# Altium integrated library 自定义库.IntLib: 520 symbols (part 4 of 6)
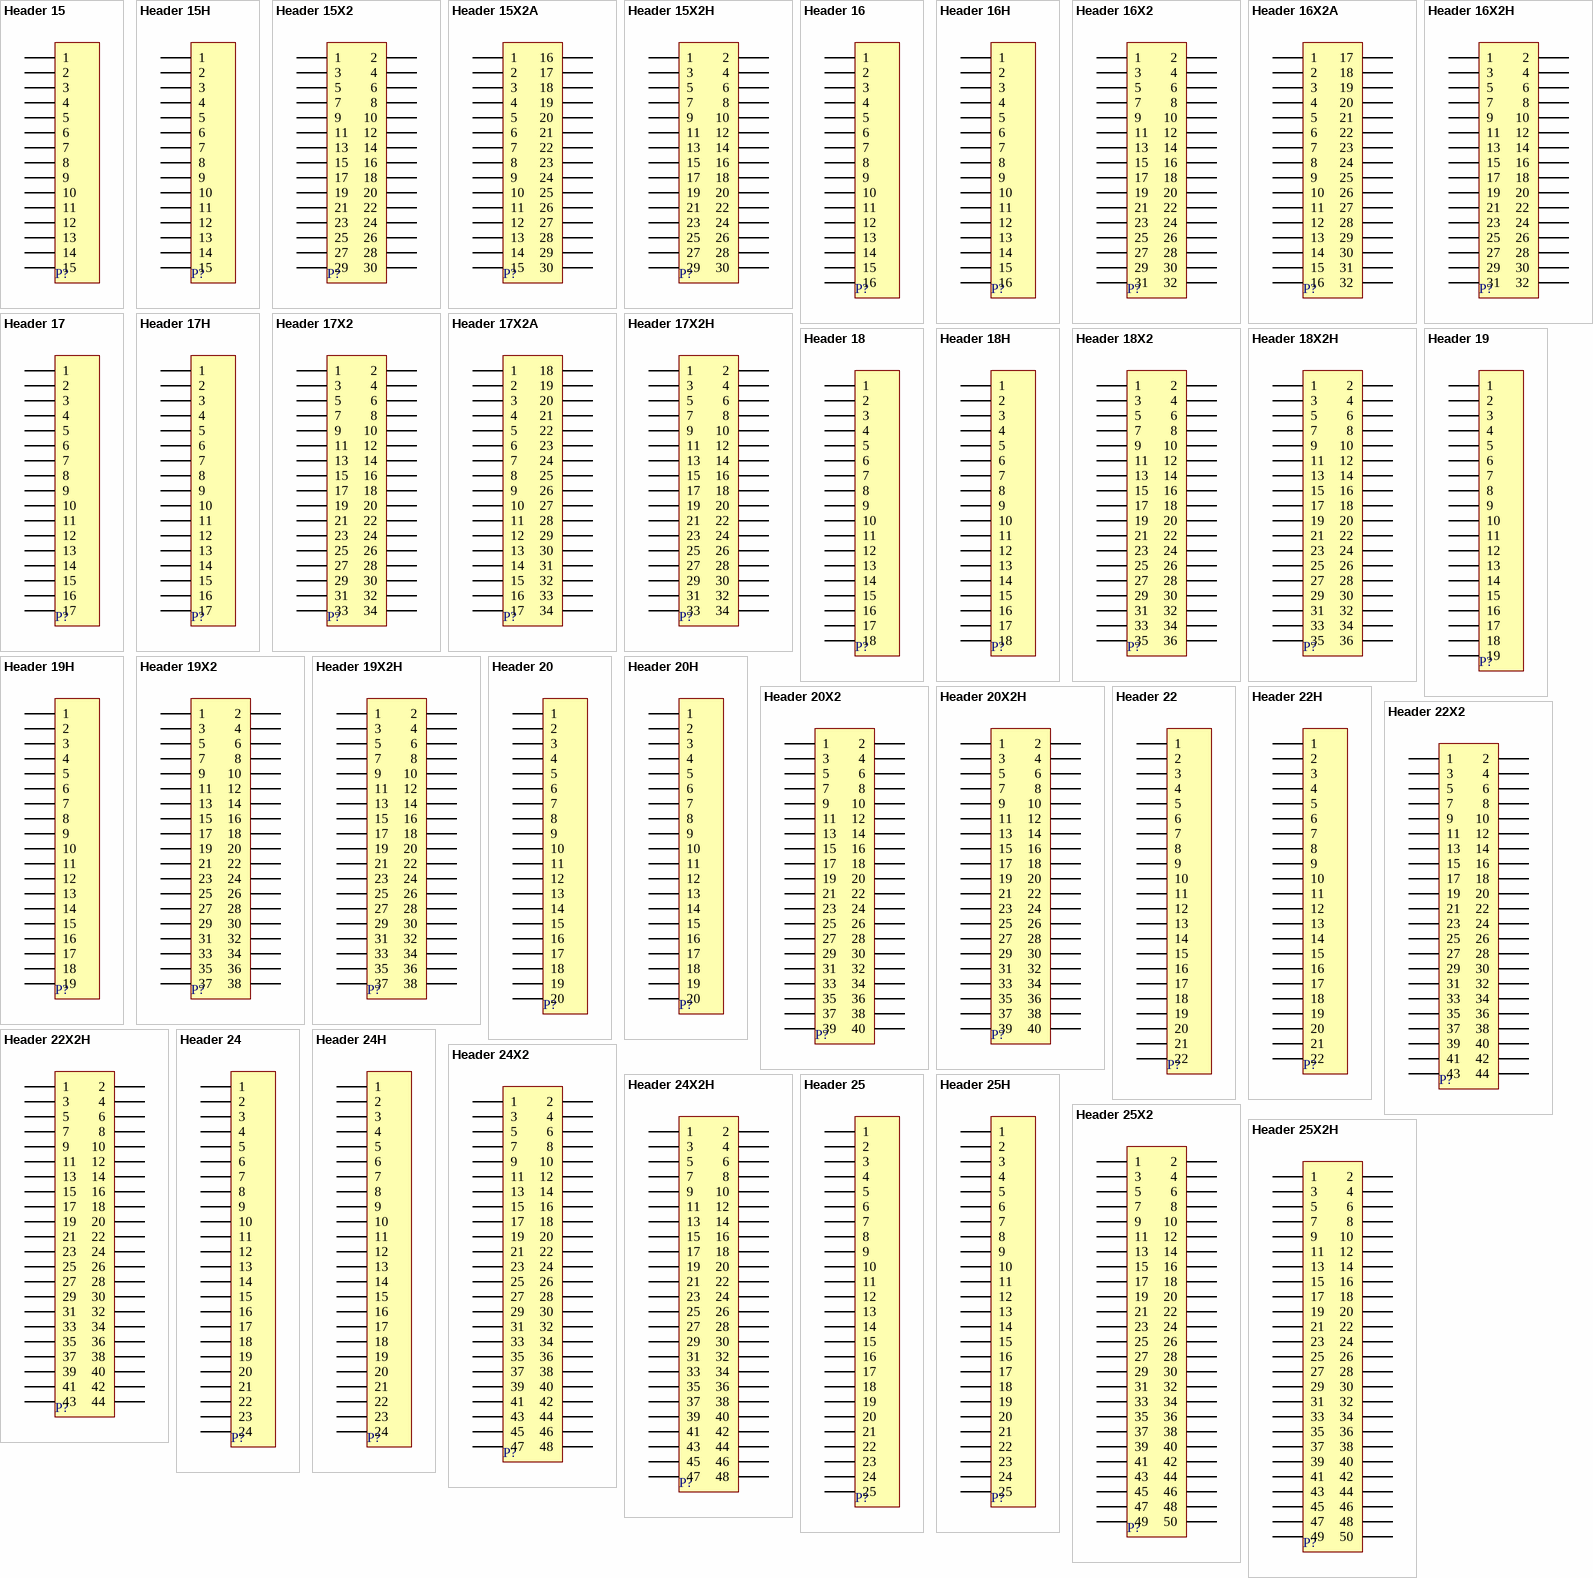
[diagram p43: symbols Header 15 to Header 25X2H]

## Header 25X2
designator P?
Header, 25-Pin, Dual row; LatestRevisionDate: 17-Jul-2002; LatestRevisionNote: Re-released for DXP Platform.; Publisher: Altium Limited
footprint HDR2X25 (Connector; Header; 25x2 Position)
signal-integrity model Connector
pins: 1, 2, 3, 4, 5, 6, 7, 8, 9, 10, 11, 12, 13, 14, 15, 16, 17, 18, 19, 20, 21, 22, 23, 24, 25, 26, 27, 28, 29, 30, 31, 32, 33, 34, 35, 36, 37, 38, 39, 40, 41, 42, 43, 44, 45, 46, 47, 48, 49, 50

## Header 25X2H
designator P?
Header, 25-Pin, Dual row, Right Angle; LatestRevisionDate: 17-Jul-2002; LatestRevisionNote: Re-released for DXP Platform.; Publisher: Altium Limited
footprint HDR2X25H (Connector; Header; 25x2 Position; Right Angle)
signal-integrity model Connector
pins: 1, 2, 3, 4, 5, 6, 7, 8, 9, 10, 11, 12, 13, 14, 15, 16, 17, 18, 19, 20, 21, 22, 23, 24, 25, 26, 27, 28, 29, 30, 31, 32, 33, 34, 35, 36, 37, 38, 39, 40, 41, 42, 43, 44, 45, 46, 47, 48, 49, 50

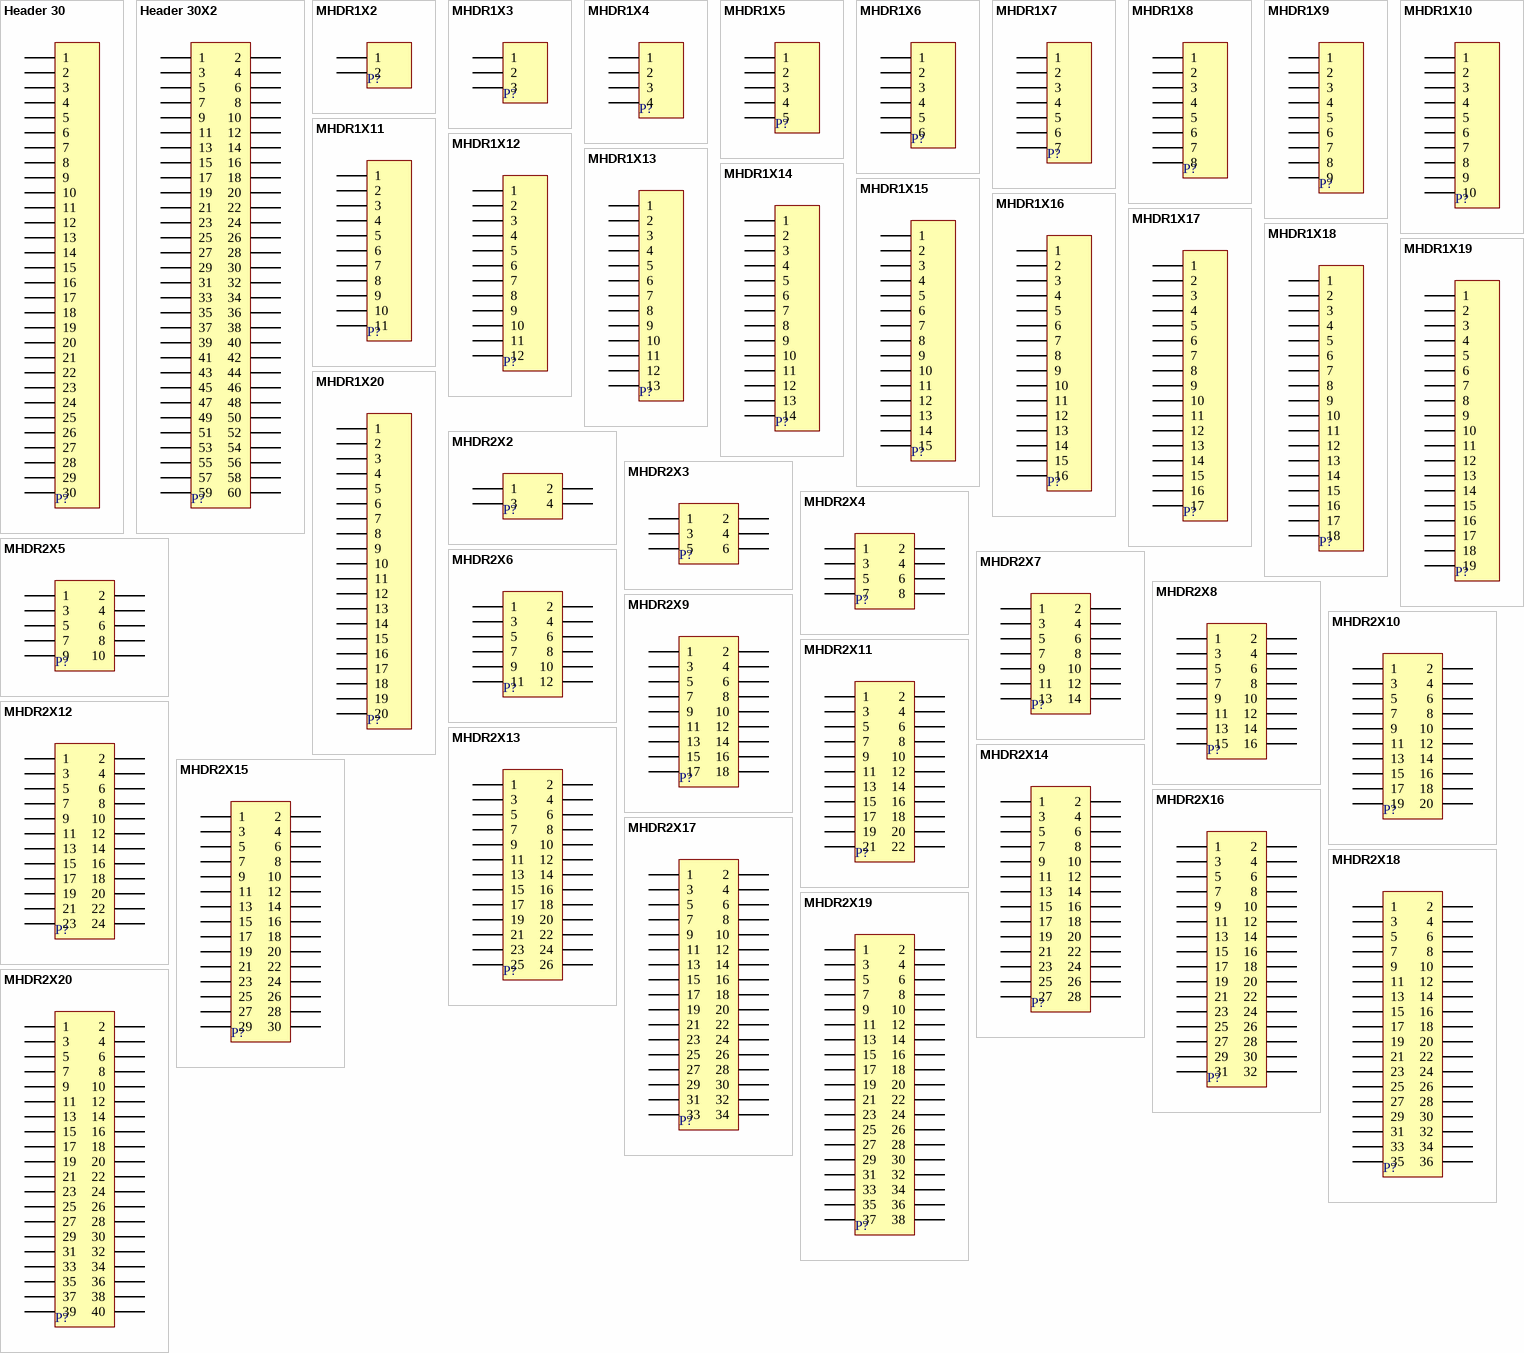
[diagram p12: symbols Header 30 to MHDR2X20]

## Header 30
designator P?
Header, 30-Pin; LatestRevisionDate: 17-Jul-2002; LatestRevisionNote: Re-released for DXP Platform.; Publisher: Altium Limited
footprint HDR1X30 (Connector; Header; 30 Position)
signal-integrity model Connector
pins: 1, 2, 3, 4, 5, 6, 7, 8, 9, 10, 11, 12, 13, 14, 15, 16, 17, 18, 19, 20, 21, 22, 23, 24, 25, 26, 27, 28, 29, 30

## Header 30X2
designator P?
Header, 30-Pin, Dual row; LatestRevisionDate: 17-Jul-2002; LatestRevisionNote: Re-released for DXP Platform.; Publisher: Altium Limited
footprint HDR2X30 (Connector; Header; 30x2 Position)
signal-integrity model Connector
pins: 1, 2, 3, 4, 5, 6, 7, 8, 9, 10, 11, 12, 13, 14, 15, 16, 17, 18, 19, 20, 21, 22, 23, 24, 25, 26, 27, 28, 29, 30, 31, 32, 33, 34, 35, 36, 37, 38, 39, 40, 41, 42, 43, 44, 45, 46, 47, 48, 49, 50, 51, 52, 53, 54, 55, 56, 57, 58, 59, 60

## MHDR1X2
designator P?
Header, 2-Pin; LatestRevisionDate: 17-Jul-2002; LatestRevisionNote: Re-released for DXP Platform.; Publisher: Altium Limited
footprint MHDR1X2 (Connector; Header; 2 Position)
signal-integrity model Connector
pins: 1, 2

## MHDR1X3
designator P?
Header, 3-Pin; LatestRevisionDate: 17-Jul-2002; LatestRevisionNote: Re-released for DXP Platform.; Publisher: Altium Limited
footprint MHDR1X3 (Connector; Header; 3 Position)
signal-integrity model Connector
pins: 1, 2, 3

## MHDR1X4
designator P?
Header, 4-Pin; LatestRevisionDate: 17-Jul-2002; LatestRevisionNote: Re-released for DXP Platform.; Publisher: Altium Limited
footprint MHDR1X4 (Connector; Header; 4 Position)
signal-integrity model Connector
pins: 1, 2, 3, 4

## MHDR1X5
designator P?
Header, 5-Pin; LatestRevisionDate: 17-Jul-2002; LatestRevisionNote: Re-released for DXP Platform.; Publisher: Altium Limited
footprint MHDR1X5 (Connector; Header; 5 Position)
signal-integrity model Connector
pins: 1, 2, 3, 4, 5

## MHDR1X6
designator P?
Header, 6-Pin; LatestRevisionDate: 17-Jul-2002; LatestRevisionNote: Re-released for DXP Platform.; Publisher: Altium Limited
footprint MHDR1X6 (Connector; Header; 6 Position)
signal-integrity model Connector
pins: 1, 2, 3, 4, 5, 6

## MHDR1X7
designator P?
Header, 7-Pin; LatestRevisionDate: 17-Jul-2002; LatestRevisionNote: Re-released for DXP Platform.; Publisher: Altium Limited
footprint MHDR1X7 (Connector; Header; 7 Position)
signal-integrity model Connector
pins: 1, 2, 3, 4, 5, 6, 7

## MHDR1X8
designator P?
Header, 8-Pin; LatestRevisionDate: 17-Jul-2002; LatestRevisionNote: Re-released for DXP Platform.; Publisher: Altium Limited
footprint MHDR1X8 (Connector; Header; 8 Position)
signal-integrity model Connector
pins: 1, 2, 3, 4, 5, 6, 7, 8

## MHDR1X9
designator P?
Header, 9-Pin; LatestRevisionDate: 17-Jul-2002; LatestRevisionNote: Re-released for DXP Platform.; Publisher: Altium Limited
footprint MHDR1X9 (Connector; Header; 9 Position)
signal-integrity model Connector
pins: 1, 2, 3, 4, 5, 6, 7, 8, 9

## MHDR1X10
designator P?
Header, 10-Pin; LatestRevisionDate: 17-Jul-2002; LatestRevisionNote: Re-released for DXP Platform.; Publisher: Altium Limited
footprint MHDR1X10 (Connector; Header; 10 Position)
signal-integrity model Connector
pins: 1, 2, 3, 4, 5, 6, 7, 8, 9, 10

## MHDR1X11
designator P?
Header, 11-Pin; LatestRevisionDate: 17-Jul-2002; LatestRevisionNote: Re-released for DXP Platform.; Publisher: Altium Limited
footprint MHDR1X11 (Connector; Header; 11 Position)
signal-integrity model Connector
pins: 1, 2, 3, 4, 5, 6, 7, 8, 9, 10, 11

## MHDR1X12
designator P?
Header, 12-Pin; LatestRevisionDate: 17-Jul-2002; LatestRevisionNote: Re-released for DXP Platform.; Publisher: Altium Limited
footprint MHDR1X12 (Connector; Header; 12 Position)
signal-integrity model Connector
pins: 1, 2, 3, 4, 5, 6, 7, 8, 9, 10, 11, 12

## MHDR1X13
designator P?
Header, 13-Pin; LatestRevisionDate: 17-Jul-2002; LatestRevisionNote: Re-released for DXP Platform.; Publisher: Altium Limited
footprint MHDR1X13 (Connector; Header; 13 Position)
signal-integrity model Connector
pins: 1, 2, 3, 4, 5, 6, 7, 8, 9, 10, 11, 12, 13

## MHDR1X14
designator P?
Header, 14-Pin; LatestRevisionDate: 17-Jul-2002; LatestRevisionNote: Re-released for DXP Platform.; Publisher: Altium Limited
footprint MHDR1X14 (Connector; Header; 14 Position)
signal-integrity model Connector
pins: 1, 2, 3, 4, 5, 6, 7, 8, 9, 10, 11, 12, 13, 14

## MHDR1X15
designator P?
Header, 15-Pin; LatestRevisionDate: 17-Jul-2002; LatestRevisionNote: Re-released for DXP Platform.; Publisher: Altium Limited
footprint MHDR1X15 (Connector; Header; 15 Position)
signal-integrity model Connector
pins: 1, 2, 3, 4, 5, 6, 7, 8, 9, 10, 11, 12, 13, 14, 15

## MHDR1X16
designator P?
Header, 16-Pin; LatestRevisionDate: 17-Jul-2002; LatestRevisionNote: Re-released for DXP Platform.; Publisher: Altium Limited
footprint MHDR1X16 (Connector; Header; 16 Position)
signal-integrity model Connector
pins: 1, 2, 3, 4, 5, 6, 7, 8, 9, 10, 11, 12, 13, 14, 15, 16

## MHDR1X17
designator P?
Header, 17-Pin; LatestRevisionDate: 17-Jul-2002; LatestRevisionNote: Re-released for DXP Platform.; Publisher: Altium Limited
footprint MHDR1X17 (Connector; Header; 17 Position)
signal-integrity model Connector
pins: 1, 2, 3, 4, 5, 6, 7, 8, 9, 10, 11, 12, 13, 14, 15, 16, 17

## MHDR1X18
designator P?
Header, 18-Pin; LatestRevisionDate: 17-Jul-2002; LatestRevisionNote: Re-released for DXP Platform.; Publisher: Altium Limited
footprint MHDR1X18 (Connector; Header; 18 Position)
signal-integrity model Connector
pins: 1, 2, 3, 4, 5, 6, 7, 8, 9, 10, 11, 12, 13, 14, 15, 16, 17, 18

## MHDR1X19
designator P?
Header, 19-Pin; LatestRevisionDate: 17-Jul-2002; LatestRevisionNote: Re-released for DXP Platform.; Publisher: Altium Limited
footprint MHDR1X19 (Connector; Header; 19 Position)
signal-integrity model Connector
pins: 1, 2, 3, 4, 5, 6, 7, 8, 9, 10, 11, 12, 13, 14, 15, 16, 17, 18, 19

## MHDR1X20
designator P?
Header, 20-Pin; LatestRevisionDate: 17-Jul-2002; LatestRevisionNote: Re-released for DXP Platform.; Publisher: Altium Limited
footprint MHDR1X20 (Connector; Header; 20 Position)
signal-integrity model Connector
pins: 1, 2, 3, 4, 5, 6, 7, 8, 9, 10, 11, 12, 13, 14, 15, 16, 17, 18, 19, 20

## MHDR2X2
designator P?
Header, 2-Pin, Dual row; LatestRevisionDate: 17-Jul-2002; LatestRevisionNote: Re-released for DXP Platform.; Publisher: Altium Limited
footprint MHDR2X2 (Connector; Header; 2x2 Position)
signal-integrity model Connector
pins: 1, 2, 3, 4

## MHDR2X3
designator P?
Header, 3-Pin, Dual row; LatestRevisionDate: 17-Jul-2002; LatestRevisionNote: Re-released for DXP Platform.; Publisher: Altium Limited
footprint MHDR2X3 (Connector; Header; 3x2 Position)
signal-integrity model Connector
pins: 1, 2, 3, 4, 5, 6

## MHDR2X4
designator P?
Header, 4-Pin, Dual row; LatestRevisionDate: 17-Jul-2002; LatestRevisionNote: Re-released for DXP Platform.; Publisher: Altium Limited
footprint MHDR2X4 (Connector; Header; 4x2 Position)
signal-integrity model Connector
pins: 1, 2, 3, 4, 5, 6, 7, 8

## MHDR2X5
designator P?
Header, 5-Pin, Dual row; LatestRevisionDate: 17-Jul-2002; LatestRevisionNote: Re-released for DXP Platform.; Publisher: Altium Limited
footprint MHDR2X5 (Connector; Header; 5x2 Position)
signal-integrity model Connector
pins: 1, 2, 3, 4, 5, 6, 7, 8, 9, 10

## MHDR2X6
designator P?
Header, 6-Pin, Dual row; LatestRevisionDate: 17-Jul-2002; LatestRevisionNote: Re-released for DXP Platform.; Publisher: Altium Limited
footprint MHDR2X6 (Connector; Header; 6x2 Position)
signal-integrity model Connector
pins: 1, 2, 3, 4, 5, 6, 7, 8, 9, 10, 11, 12

## MHDR2X7
designator P?
Header, 7-Pin, Dual row; LatestRevisionDate: 17-Jul-2002; LatestRevisionNote: Re-released for DXP Platform.; Publisher: Altium Limited
footprint MHDR2X7 (Connector; Header; 7x2 Position)
signal-integrity model Connector
pins: 1, 2, 3, 4, 5, 6, 7, 8, 9, 10, 11, 12, 13, 14

## MHDR2X8
designator P?
Header, 8-Pin, Dual row; LatestRevisionDate: 17-Jul-2002; LatestRevisionNote: Re-released for DXP Platform.; Publisher: Altium Limited
footprint MHDR2X8 (Connector; Header; 8x2 Position)
signal-integrity model Connector
pins: 1, 2, 3, 4, 5, 6, 7, 8, 9, 10, 11, 12, 13, 14, 15, 16

## MHDR2X9
designator P?
Header, 9-Pin, Dual row; LatestRevisionDate: 17-Jul-2002; LatestRevisionNote: Re-released for DXP Platform.; Publisher: Altium Limited
footprint MHDR2X9 (Connector; Header; 9x2 Position)
signal-integrity model Connector
pins: 1, 2, 3, 4, 5, 6, 7, 8, 9, 10, 11, 12, 13, 14, 15, 16, 17, 18

## MHDR2X10
designator P?
Header, 10-Pin, Dual row; LatestRevisionDate: 17-Jul-2002; LatestRevisionNote: Re-released for DXP Platform.; Publisher: Altium Limited
footprint MHDR2X10 (Connector; Header; 10x2 Position)
signal-integrity model Connector
pins: 1, 2, 3, 4, 5, 6, 7, 8, 9, 10, 11, 12, 13, 14, 15, 16, 17, 18, 19, 20

## MHDR2X11
designator P?
Header, 11-Pin, Dual row; LatestRevisionDate: 17-Jul-2002; LatestRevisionNote: Re-released for DXP Platform.; Publisher: Altium Limited
footprint MHDR2X11 (Connector; Header; 11x2 Position)
signal-integrity model Connector
pins: 1, 2, 3, 4, 5, 6, 7, 8, 9, 10, 11, 12, 13, 14, 15, 16, 17, 18, 19, 20, 21, 22

## MHDR2X12
designator P?
Header, 12-Pin, Dual row; LatestRevisionDate: 17-Jul-2002; LatestRevisionNote: Re-released for DXP Platform.; Publisher: Altium Limited
footprint MHDR2X12 (Connector; Header; 12x2 Position)
signal-integrity model Connector
pins: 1, 2, 3, 4, 5, 6, 7, 8, 9, 10, 11, 12, 13, 14, 15, 16, 17, 18, 19, 20, 21, 22, 23, 24

## MHDR2X13
designator P?
Header, 13-Pin, Dual row; LatestRevisionDate: 17-Jul-2002; LatestRevisionNote: Re-released for DXP Platform.; Publisher: Altium Limited
footprint MHDR2X13 (Connector; Header; 13x2 Position)
signal-integrity model Connector
pins: 1, 2, 3, 4, 5, 6, 7, 8, 9, 10, 11, 12, 13, 14, 15, 16, 17, 18, 19, 20, 21, 22, 23, 24, 25, 26

## MHDR2X14
designator P?
Header, 14-Pin, Dual row; LatestRevisionDate: 17-Jul-2002; LatestRevisionNote: Re-released for DXP Platform.; Publisher: Altium Limited
footprint MHDR2X14 (Connector; Header; 14x2 Position)
signal-integrity model Connector
pins: 1, 2, 3, 4, 5, 6, 7, 8, 9, 10, 11, 12, 13, 14, 15, 16, 17, 18, 19, 20, 21, 22, 23, 24, 25, 26, 27, 28

## MHDR2X15
designator P?
Header, 15-Pin, Dual row; LatestRevisionDate: 17-Jul-2002; LatestRevisionNote: Re-released for DXP Platform.; Publisher: Altium Limited
footprint MHDR2X15 (Connector; Header; 15x2 Position)
signal-integrity model Connector
pins: 1, 2, 3, 4, 5, 6, 7, 8, 9, 10, 11, 12, 13, 14, 15, 16, 17, 18, 19, 20, 21, 22, 23, 24, 25, 26, 27, 28, 29, 30

## MHDR2X16
designator P?
Header, 16-Pin, Dual row; LatestRevisionDate: 17-Jul-2002; LatestRevisionNote: Re-released for DXP Platform.; Publisher: Altium Limited
footprint MHDR2X16 (Connector; Header; 16x2 Position)
signal-integrity model Connector
pins: 1, 2, 3, 4, 5, 6, 7, 8, 9, 10, 11, 12, 13, 14, 15, 16, 17, 18, 19, 20, 21, 22, 23, 24, 25, 26, 27, 28, 29, 30, 31, 32

## MHDR2X17
designator P?
Header, 17-Pin, Dual row; LatestRevisionDate: 17-Jul-2002; LatestRevisionNote: Re-released for DXP Platform.; Publisher: Altium Limited
footprint MHDR2X17 (Connector; Header; 17x2 Position)
signal-integrity model Connector
pins: 1, 2, 3, 4, 5, 6, 7, 8, 9, 10, 11, 12, 13, 14, 15, 16, 17, 18, 19, 20, 21, 22, 23, 24, 25, 26, 27, 28, 29, 30, 31, 32, 33, 34

## MHDR2X18
designator P?
Header, 18-Pin, Dual row; LatestRevisionDate: 17-Jul-2002; LatestRevisionNote: Re-released for DXP Platform.; Publisher: Altium Limited
footprint MHDR2X18 (Connector; Header; 18x2 Position)
signal-integrity model Connector
pins: 1, 2, 3, 4, 5, 6, 7, 8, 9, 10, 11, 12, 13, 14, 15, 16, 17, 18, 19, 20, 21, 22, 23, 24, 25, 26, 27, 28, 29, 30, 31, 32, 33, 34, 35, 36

## MHDR2X19
designator P?
Header, 19-Pin, Dual row; LatestRevisionDate: 17-Jul-2002; LatestRevisionNote: Re-released for DXP Platform.; Publisher: Altium Limited
footprint MHDR2X19 (Connector; Header; 19x2 Position)
signal-integrity model Connector
pins: 1, 2, 3, 4, 5, 6, 7, 8, 9, 10, 11, 12, 13, 14, 15, 16, 17, 18, 19, 20, 21, 22, 23, 24, 25, 26, 27, 28, 29, 30, 31, 32, 33, 34, 35, 36, 37, 38

## MHDR2X20
designator P?
Header, 20-Pin, Dual row; LatestRevisionDate: 17-Jul-2002; LatestRevisionNote: Re-released for DXP Platform.; Publisher: Altium Limited
footprint MHDR2X20 (Connector; Header; 20x2 Position)
signal-integrity model Connector
pins: 1, 2, 3, 4, 5, 6, 7, 8, 9, 10, 11, 12, 13, 14, 15, 16, 17, 18, 19, 20, 21, 22, 23, 24, 25, 26, 27, 28, 29, 30, 31, 32, 33, 34, 35, 36, 37, 38, 39, 40

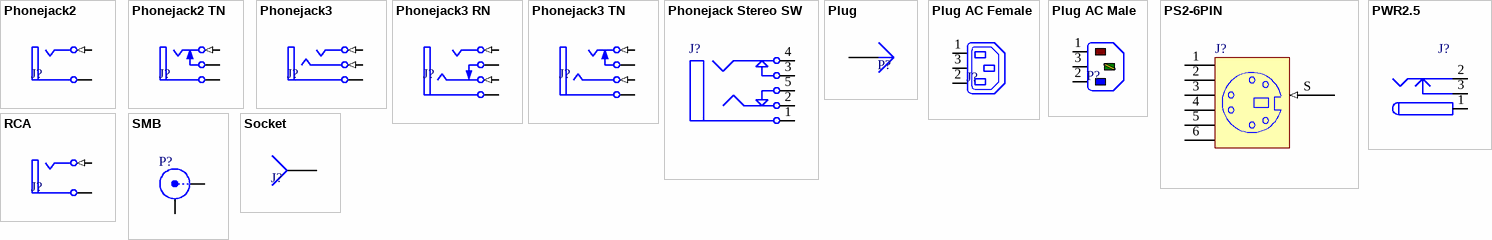
[diagram p13: symbols Phonejack2 to Socket]

## Phonejack2
designator J?
Jack Socket, 1/4" [6.5mm], Thru-Hole, Vertical, 2-Conductor Open Circuit; PackageDocument: 2003; PCB_Layout: Complies with manufacturer's recommendation.; DrillAndSlotSize: Corresponds to nominal value.; LatestRevisionDate: 15-Jul-2004; LatestRevisionNote: Component Replaced.; DatasheetDocument: 2003; PackageReference: S1VS_SNS; Publisher: Altium Limited; ComponentLink1Description: Manufacturer Link; ComponentLink1URL: http://www.cliffuk.co.uk/
footprint JACK/6-V2 (Connector; Jack Socket, 1/4" [6.5mm], Thru-Hole, 2 Position, Vertical, Body 15.7 x 15.7 x 31 mm (WxTxH))
signal-integrity model JACK Socket
pins: 1 T (in) "Tip", 5 S (power) "Sleeve (Ground)"

## Phonejack2 TN
designator J?
Jack Socket, 1/4" [6.5mm], Thru-Hole, Vertical, 2-Conductor with Tip closed; PackageDocument: 2003; PCB_Layout: Complies with manufacturer's recommendation.; DrillAndSlotSize: Corresponds to nominal value.; LatestRevisionDate: 15-Jul-2004; LatestRevisionNote: Component Replaced & renamed from "Phonejack".; DatasheetDocument: 2003; PackageReference: S1VS_SNB; Publisher: Altium Limited; ComponentLink1Description: Manufacturer Link; ComponentLink1URL: http://www.cliffuk.co.uk/
footprint JACK/6-V3A (Connector; Jack Socket, 1/4" [6.5mm], Thru-Hole, 3 Position, Vertical, Body 15.7 x 15.7 x 31 mm (WxTxH))
signal-integrity model JACK Socket
pins: 1 T (in) "Tip", 2 TN "Tip Normal (Break Contact)", 5 S (power) "Sleeve (Ground)"

## Phonejack3
designator J?
Jack Socket, 1/4" [6.5mm], Thru-Hole, Vertical, 3-Conductor Open Circuit (Non-Normalling); PackageDocument: 2003; PCB_Layout: Complies with manufacturer's recommendation.; DrillAndSlotSize: Corresponds to nominal value.; Published: 15-Jul-2004; LatestRevisionDate: 15-Jul-2004; LatestRevisionNote: Component Replaced.; DatasheetDocument: 2003; PackageReference: S1VS_SSS; Publisher: Altium Limited; ComponentLink1Description: Manufacturer Link; ComponentLink1URL: http://www.cliffuk.co.uk/
footprint JACK/6-V3 (Connector; Jack Socket, 1/4" [6.5mm], Thru-Hole, 3 Position, Vertical, Body 15.7 x 15.7 x 31 mm (WxTxH))
signal-integrity model JACK Socket
pins: 1 T (in) "Tip/Left Channel/(+)", 3 R (in) "Ring/Right Channel/(-)", 5 S (power) "Sleeve (Ground)"

## Phonejack3 RN
designator J?
Jack Socket, 1/4" [6.5mm], Thru-Hole, Vertical, 3-Conductor with Tip open & Ring closed; PackageDocument: 2003; PCB_Layout: Complies with manufacturer's recommendation.; DrillAndSlotSize: Corresponds to nominal value.; Published: 15-Jul-2004; DatasheetDocument: 2003; PackageReference: S1VS_SBS; Publisher: Altium Limited; ComponentLink1Description: Manufacturer Link; ComponentLink1URL: http://www.cliffuk.co.uk/
footprint JACK/6-V4A (Connector; Jack Socket, 1/4" [6.5mm], Thru-Hole, 4 Position, Vertical, Body 15.7 x 15.7 x 31 mm (WxTxH))
signal-integrity model JACK Socket
pins: 1 T (in) "Tip/Left Channel/(+)", 3 R (in) "Ring/Right Channel/(-)", 4 RN "Ring Normal (Break Contact)", 5 S (power) "Sleeve (Ground)"

## Phonejack3 TN
designator J?
Jack Socket, 1/4" [6.5mm], Thru-Hole, Vertical, 3-Conductor with Tip closed & Ring open; PackageDocument: 2003; PCB_Layout: Complies with manufacturer's recommendation.; DrillAndSlotSize: Corresponds to nominal value.; Published: 15-Jul-2004; DatasheetDocument: 2003; PackageReference: S1VS_SSB; Publisher: Altium Limited; ComponentLink1Description: Manufacturer Link; ComponentLink1URL: http://www.cliffuk.co.uk/
footprint JACK/6-V4 (Connector; Jack Socket, 1/4" [6.5mm], Thru-Hole, 4 Position, Vertical, Body 15.7 x 15.7 x 31 mm (WxTxH))
signal-integrity model JACK Socket
pins: 1 T (in) "Tip/Left Channel/(+)", 2 TN "Tip Normal (Break Contact)", 3 R (in) "Ring/Right Channel/(-)", 5 S (power) "Sleeve (Ground)"

## Phonejack Stereo SW
designator J?
3-Conductor Jack with 2 break contacts (normals) and 2 auxiliary make contacts; Published: 5-Jan-2004; LatestRevisionDate: 17-Dec-2003; LatestRevisionNote: PCB Footprint replaced.; DatasheetDocument: 07-Mar-2000; Publisher: Altium Limited; ComponentLink1Description: Manufacturer Link; ComponentLink1URL: http://domino.kycon.com/internet/Products.html
footprint ST-3150-5N (Connector; Stereo Jack, 3.5mm, 5 Position)
signal-integrity model Connector
pins: 1, 1A, 1B, 2, 2A, 2B, 3, 3A, 3B, 4, 4A, 4B, 5, 5A, 5B

## Plug
designator P?
Plug; LatestRevisionDate: 17-Jul-2002; LatestRevisionNote: Re-released for DXP Platform.; Publisher: Altium Limited
footprint PIN1 (Connector; Plug)
signal-integrity model Connector
pins: 1

## Plug AC Female
designator J?
IEC Mains Power Outlet, EN60 320-2-2 F Class I, PC Flange Rear Mount, Chassis Socket; PackageDocument: ver.80, 15-Sep-2003; MaximumRating: 10A, 250V a.c. (UL & CSA 15A, 250V a.c.); MountingFixtures: Not drawn on schematic symbol.; PCB_Layout: Complies with manufacturer's recommendation.; DrillSize: Corresponds to nominal value.; Published: 15-Jul-2004; LatestRevisionDate: 15-Jul-2004; LatestRevisionNote: Component Replaced & renamed from "Phonejack".; DatasheetDocument: ver.80, 15-Sep-2003; PackageReference: PX0675/PC; Publisher: Altium Limited; Terminations: P.C. Spills; ComponentLink1Description: Manufacturer Link; ComponentLink1URL: http://www.bulgin.co.uk/
footprint IEC7-2H3 (Mains Power Outlet, IEC60 320-2-2 F, PC Flange Rear Mount)
pins: 1 L (power) "Live (Active)", 2 N (power) "Neutral", 3 E (power) "Earth (Ground)"

## Plug AC Male
designator P?
IEC Mains Power Inlet, EN60 320-1 C14 Class I Cold Condition, PC Flange Rear Mount, Chassis Plug; PackageDocument: ver.80, 15-Sep-2003; MaximumRating: 10A, 250V a.c. (UL & CSA 15A, 250V a.c.); MountingFixtures: Not drawn on schematic symbol.; PCB_Layout: Complies with manufacturer's recommendation.; DrillSize: Corresponds to nominal value.; Note: IEC Color Scheme employed for L, N and E.; Published: 15-Jul-2004; LatestRevisionDate: 15-Jul-2004; LatestRevisionNote: Component Replaced.; DatasheetDocument: ver.80, 15-Sep-2003; PackageReference: PX0580/PC; Publisher: Altium Limited; Terminations: P.C. Spills; ComponentLink1Description: Manufacturer Link; ComponentLink1URL: http://www.bulgin.co.uk/
footprint IEC9.14-2H3 (Mains Power Inlet, IEC60 320-1 C14, PC Flange Rear Mount)
pins: 1 L (power) "Live (Active)", 2 N (power) "Neutral", 3 E (power) "Earth (Ground)"

## PS2-6PIN
designator J?
6 Pin Through Hole PS2 Socket (Kycon P/N); Published: 17-Dec-2003; Publisher: Altium Limited; ComponentLink1Description: Manufacturer Link; ComponentLink1URL: http://www.oupiin.com/prodindx.html#Headers
footprint PS2-6PIN (PS2 Socket, 6 Pin, Through Hole)
signal-integrity model Connector
pins: 1, 2, 3, 4, 5, 6, S (in)

## PWR2.5
designator J?
Low Voltage Power Supply Connector; Published: 17-Dec-2003; DatasheetDocument: 09-May-2002; Publisher: Altium Limited; ComponentLink1Description: Manufacturer Link; ComponentLink1URL: http://domino.kycon.com/internet/Products.html
footprint KLD-0202 (DC Power Jack, 2.5mm, KLD Series, PCB Mount)
signal-integrity model Connector
pins: 1 (power), 1A (power), 1B (power), 2 (power), 2A (power), 2B (power), 3 (power), 3A (power), 3B (power)

## RCA
designator J?
RCA Phono Jack, Right Angle, Thru-Hole, Snap-In; PCB_Layout: Complies with manufacturer's recommendation.; DrillAndSlotSize: Corresponds to nominal value.; Published: 15-Jul-2004; LatestRevisionDate: 15-Jul-2004; LatestRevisionNote: Component Replaced.; DatasheetDocument: 7-Jul-2000; PackageDocument: 7-Jul-2000; PackageReference: 161; Publisher: Altium Limited; ComponentLink1Description: Manufacturer Link; ComponentLink1URL: http://www.mouser.com/kobiconn/
footprint RCA/4.5-H2 (Two Conductor Jack (RCA), Right Angle, Thru-Hole, Body 10 x 10 x 13 mm (WxTxH))
signal-integrity model RCA
pins: 1A Ground (power) "Outer Shield (Sleeve)", 2B Signal (in) "Center Pin (Plug Tip)"

## SMB
designator P?
SMB Straight Connector; LatestRevisionDate: 17-Jul-2002; LatestRevisionNote: Re-released for DXP Platform.; Publisher: Altium Limited
footprint SMB_V-RJ45 (Connector; SMB Straight)
signal-integrity model Connector
pins: 1 X, 2 Y

## Socket
designator J?
Socket; LatestRevisionDate: 17-Jul-2002; LatestRevisionNote: Re-released for DXP Platform.; Publisher: Altium Limited
footprint PIN1 (Connector; Socket)
signal-integrity model Connector
pins: 1


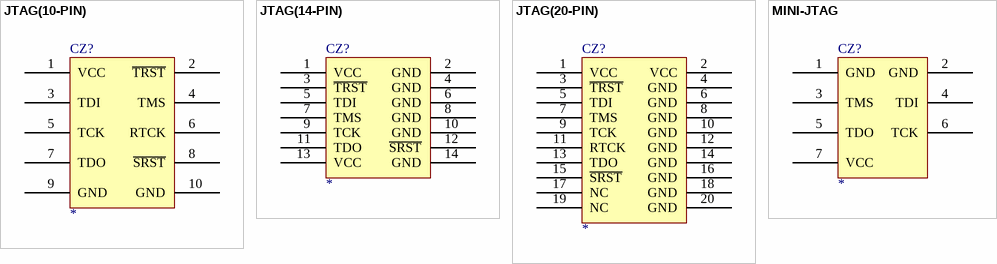
[diagram p14: symbols JTAG(10-PIN) to MINI-JTAG]

## JTAG(10-PIN)
designator CZ?
footprint IDC-10(2.54)IDE
pins: 1 VCC, 2 ~{TRST}, 3 TDI, 4 TMS, 5 TCK, 6 RTCK, 7 TDO, 8 ~{SRST}, 9 GND, 10 GND

## JTAG(14-PIN)
designator CZ?
footprint IDC-14(2.54)IDE
pins: 1 VCC, 2 GND, 3 ~{TRST}, 4 GND, 5 TDI, 6 GND, 7 TMS, 8 GND, 9 TCK, 10 GND, 11 TDO, 12 ~{SRST}, 13 VCC, 14 GND

## JTAG(20-PIN)
designator CZ?
footprint IDC-20(2.54)IDE
pins: 1 VCC, 2 VCC, 3 ~{TRST}, 4 GND, 5 TDI, 6 GND, 7 TMS, 8 GND, 9 TCK, 10 GND, 11 RTCK, 12 GND, 13 TDO, 14 GND, 15 ~{SRST}, 16 GND, 17 NC, 18 GND, 19 NC, 20 GND

## MINI-JTAG
designator CZ?
footprint IDC-7(2.54)
pins: 1 GND, 2 GND, 3 TMS, 4 TDI, 5 TDO, 6 TCK, 7 VCC


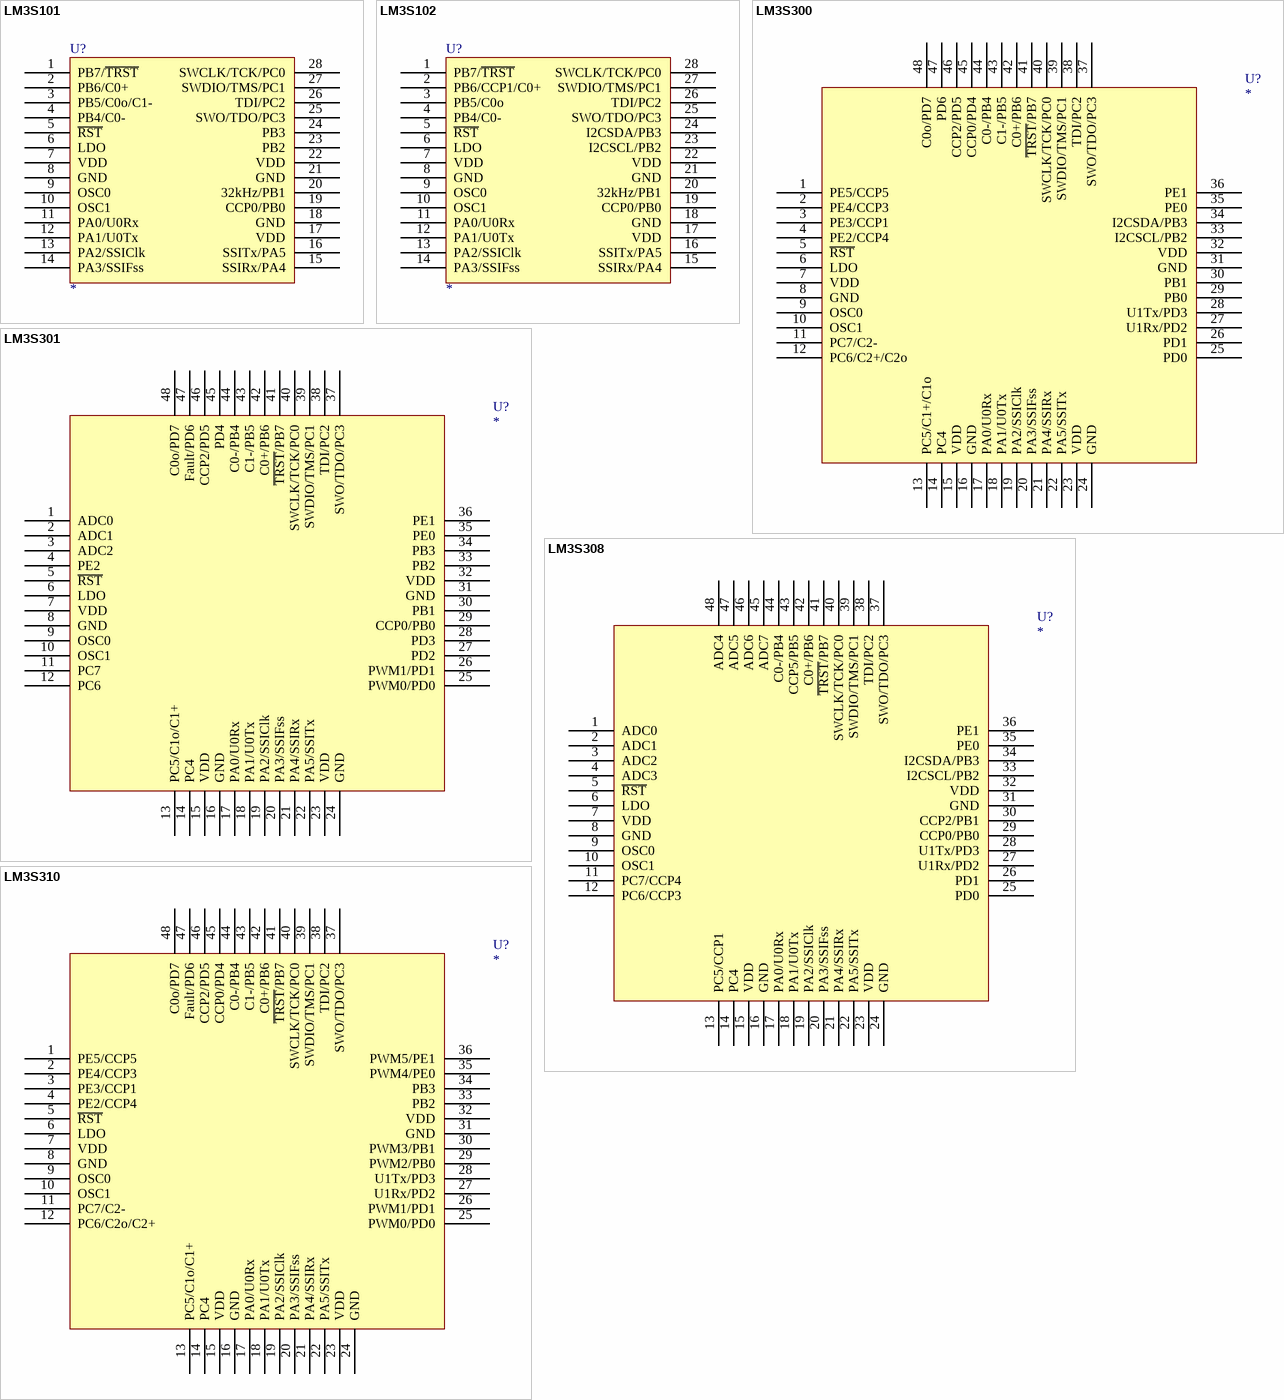
[diagram p15: symbols LM3S101 to LM3S310]

## LM3S101
designator U?
footprint SOIC-28
pins: 1 PB7/~{TRST}, 2 PB6/C0+, 3 PB5/C0o/C1-, 4 PB4/C0-, 5 ~{RST}, 6 LDO, 7 VDD, 8 GND, 9 OSC0, 10 OSC1, 11 PA0/U0Rx, 12 PA1/U0Tx, 13 PA2/SSIClk, 14 PA3/SSIFss, 15 SSIRx/PA4, 16 SSITx/PA5, 17 VDD, 18 GND, 19 CCP0/PB0, 20 32kHz/PB1, 21 GND, 22 VDD, 23 PB2, 24 PB3, 25 SWO/TDO/PC3, 26 TDI/PC2, 27 SWDIO/TMS/PC1, 28 SWCLK/TCK/PC0

## LM3S102
designator U?
footprint SOIC-28
pins: 1 PB7/~{TRST}, 2 PB6/CCP1/C0+, 3 PB5/C0o, 4 PB4/C0-, 5 ~{RST}, 6 LDO, 7 VDD, 8 GND, 9 OSC0, 10 OSC1, 11 PA0/U0Rx, 12 PA1/U0Tx, 13 PA2/SSIClk, 14 PA3/SSIFss, 15 SSIRx/PA4, 16 SSITx/PA5, 17 VDD, 18 GND, 19 CCP0/PB0, 20 32kHz/PB1, 21 GND, 22 VDD, 23 I2CSCL/PB2, 24 I2CSDA/PB3, 25 SWO/TDO/PC3, 26 TDI/PC2, 27 SWDIO/TMS/PC1, 28 SWCLK/TCK/PC0

## LM3S300
designator U?
footprint LQFP-48
pins: 1 PE5/CCP5, 2 PE4/CCP3, 3 PE3/CCP1, 4 PE2/CCP4, 5 ~{RST}, 6 LDO, 7 VDD, 8 GND, 9 OSC0, 10 OSC1, 11 PC7/C2-, 12 PC6/C2+/C2o, 13 PC5/C1+/C1o, 14 PC4, 15 VDD, 16 GND, 17 PA0/U0Rx, 18 PA1/U0Tx, 19 PA2/SSIClk, 20 PA3/SSIFss, 21 PA4/SSIRx, 22 PA5/SSITx, 23 VDD, 24 GND, 25 PD0, 26 PD1, 27 U1Rx/PD2, 28 U1Tx/PD3, 29 PB0, 30 PB1, 31 GND, 32 VDD, 33 I2CSCL/PB2, 34 I2CSDA/PB3, 35 PE0, 36 PE1, 37 SWO/TDO/PC3, 38 TDI/PC2, 39 SWDIO/TMS/PC1, 40 SWCLK/TCK/PC0, 41 ~{TRST}/PB7, 42 C0+/PB6, 43 C1-/PB5, 44 C0-/PB4, 45 CCP0/PD4, 46 CCP2/PD5, 47 PD6, 48 C0o/PD7

## LM3S301
designator U?
footprint LQFP-48
pins: 1 ADC0, 2 ADC1, 3 ADC2, 4 PE2, 5 ~{RST}, 6 LDO, 7 VDD, 8 GND, 9 OSC0, 10 OSC1, 11 PC7, 12 PC6, 13 PC5/C1o/C1+, 14 PC4, 15 VDD, 16 GND, 17 PA0/U0Rx, 18 PA1/U0Tx, 19 PA2/SSIClk, 20 PA3/SSIFss, 21 PA4/SSIRx, 22 PA5/SSITx, 23 VDD, 24 GND, 25 PWM0/PD0, 26 PWM1/PD1, 27 PD2, 28 PD3, 29 CCP0/PB0, 30 PB1, 31 GND, 32 VDD, 33 PB2, 34 PB3, 35 PE0, 36 PE1, 37 SWO/TDO/PC3, 38 TDI/PC2, 39 SWDIO/TMS/PC1, 40 SWCLK/TCK/PC0, 41 ~{TRST}/PB7, 42 C0+/PB6, 43 C1-/PB5, 44 C0-/PB4, 45 PD4, 46 CCP2/PD5, 47 Fault/PD6, 48 C0o/PD7

## LM3S308
designator U?
footprint LQFP-48
pins: 1 ADC0, 2 ADC1, 3 ADC2, 4 ADC3, 5 ~{RST}, 6 LDO, 7 VDD, 8 GND, 9 OSC0, 10 OSC1, 11 PC7/CCP4, 12 PC6/CCP3, 13 PC5/CCP1, 14 PC4, 15 VDD, 16 GND, 17 PA0/U0Rx, 18 PA1/U0Tx, 19 PA2/SSIClk, 20 PA3/SSIFss, 21 PA4/SSIRx, 22 PA5/SSITx, 23 VDD, 24 GND, 25 PD0, 26 PD1, 27 U1Rx/PD2, 28 U1Tx/PD3, 29 CCP0/PB0, 30 CCP2/PB1, 31 GND, 32 VDD, 33 I2CSCL/PB2, 34 I2CSDA/PB3, 35 PE0, 36 PE1, 37 SWO/TDO/PC3, 38 TDI/PC2, 39 SWDIO/TMS/PC1, 40 SWCLK/TCK/PC0, 41 ~{TRST}/PB7, 42 C0+/PB6, 43 CCP5/PB5, 44 C0-/PB4, 45 ADC7, 46 ADC6, 47 ADC5, 48 ADC4

## LM3S310
designator U?
footprint LQFP-48
pins: 1 PE5/CCP5, 2 PE4/CCP3, 3 PE3/CCP1, 4 PE2/CCP4, 5 ~{RST}, 6 LDO, 7 VDD, 8 GND, 9 OSC0, 10 OSC1, 11 PC7/C2-, 12 PC6/C2o/C2+, 13 PC5/C1o/C1+, 14 PC4, 15 VDD, 16 GND, 17 PA0/U0Rx, 18 PA1/U0Tx, 19 PA2/SSIClk, 20 PA3/SSIFss, 21 PA4/SSIRx, 22 PA5/SSITx, 23 VDD, 24 GND, 25 PWM0/PD0, 26 PWM1/PD1, 27 U1Rx/PD2, 28 U1Tx/PD3, 29 PWM2/PB0, 30 PWM3/PB1, 31 GND, 32 VDD, 33 PB2, 34 PB3, 35 PWM4/PE0, 36 PWM5/PE1, 37 SWO/TDO/PC3, 38 TDI/PC2, 39 SWDIO/TMS/PC1, 40 SWCLK/TCK/PC0, 41 ~{TRST}/PB7, 42 C0+/PB6, 43 C1-/PB5, 44 C0-/PB4, 45 CCP0/PD4, 46 CCP2/PD5, 47 Fault/PD6, 48 C0o/PD7

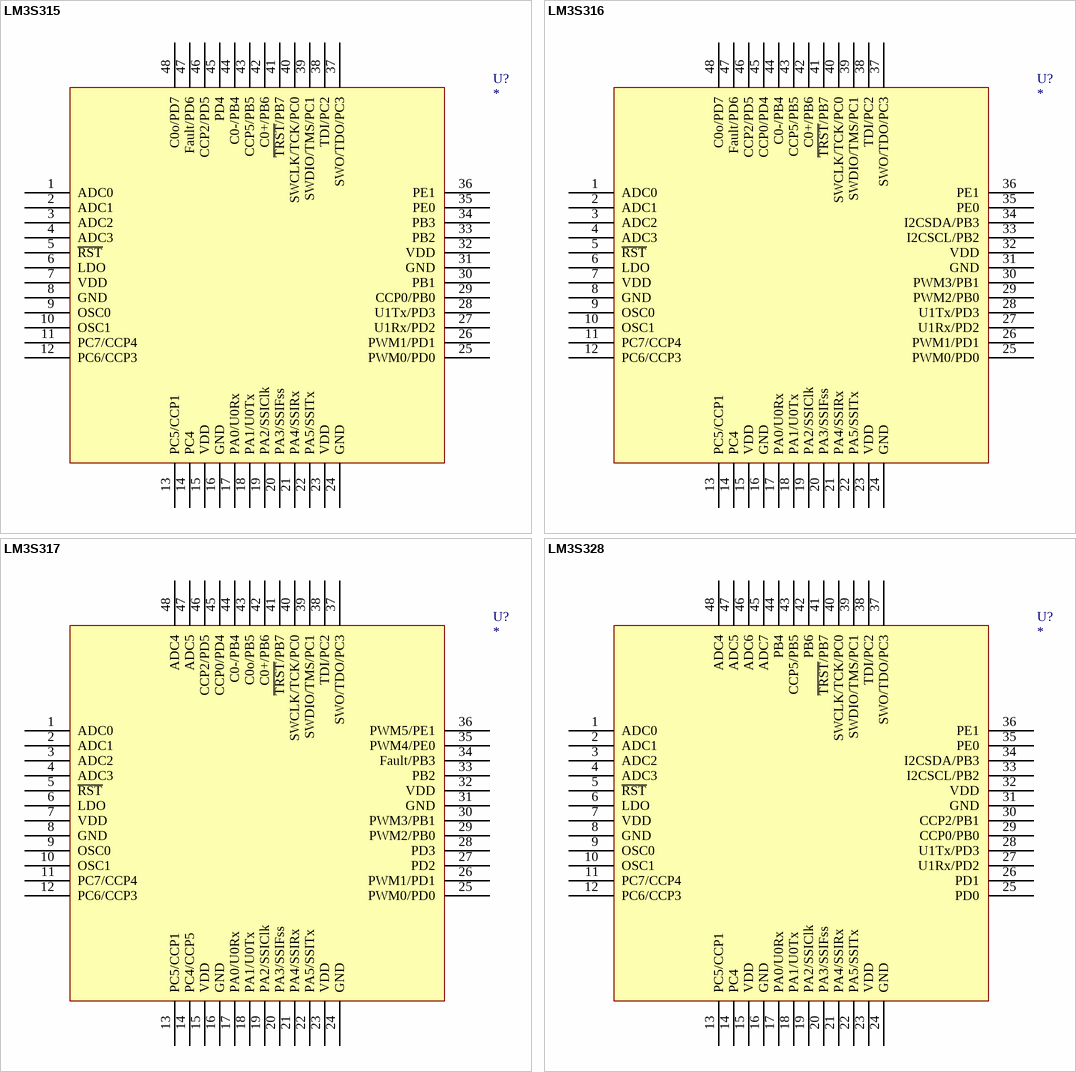
[diagram p16: symbols LM3S315 to LM3S328]

## LM3S315
designator U?
footprint LQFP-48
pins: 1 ADC0, 2 ADC1, 3 ADC2, 4 ADC3, 5 ~{RST}, 6 LDO, 7 VDD, 8 GND, 9 OSC0, 10 OSC1, 11 PC7/CCP4, 12 PC6/CCP3, 13 PC5/CCP1, 14 PC4, 15 VDD, 16 GND, 17 PA0/U0Rx, 18 PA1/U0Tx, 19 PA2/SSIClk, 20 PA3/SSIFss, 21 PA4/SSIRx, 22 PA5/SSITx, 23 VDD, 24 GND, 25 PWM0/PD0, 26 PWM1/PD1, 27 U1Rx/PD2, 28 U1Tx/PD3, 29 CCP0/PB0, 30 PB1, 31 GND, 32 VDD, 33 PB2, 34 PB3, 35 PE0, 36 PE1, 37 SWO/TDO/PC3, 38 TDI/PC2, 39 SWDIO/TMS/PC1, 40 SWCLK/TCK/PC0, 41 ~{TRST}/PB7, 42 C0+/PB6, 43 CCP5/PB5, 44 C0-/PB4, 45 PD4, 46 CCP2/PD5, 47 Fault/PD6, 48 C0o/PD7

## LM3S316
designator U?
footprint LQFP-48
pins: 1 ADC0, 2 ADC1, 3 ADC2, 4 ADC3, 5 ~{RST}, 6 LDO, 7 VDD, 8 GND, 9 OSC0, 10 OSC1, 11 PC7/CCP4, 12 PC6/CCP3, 13 PC5/CCP1, 14 PC4, 15 VDD, 16 GND, 17 PA0/U0Rx, 18 PA1/U0Tx, 19 PA2/SSIClk, 20 PA3/SSIFss, 21 PA4/SSIRx, 22 PA5/SSITx, 23 VDD, 24 GND, 25 PWM0/PD0, 26 PWM1/PD1, 27 U1Rx/PD2, 28 U1Tx/PD3, 29 PWM2/PB0, 30 PWM3/PB1, 31 GND, 32 VDD, 33 I2CSCL/PB2, 34 I2CSDA/PB3, 35 PE0, 36 PE1, 37 SWO/TDO/PC3, 38 TDI/PC2, 39 SWDIO/TMS/PC1, 40 SWCLK/TCK/PC0, 41 ~{TRST}/PB7, 42 C0+/PB6, 43 CCP5/PB5, 44 C0-/PB4, 45 CCP0/PD4, 46 CCP2/PD5, 47 Fault/PD6, 48 C0o/PD7

## LM3S317
designator U?
footprint LQFP-48
pins: 1 ADC0, 2 ADC1, 3 ADC2, 4 ADC3, 5 ~{RST}, 6 LDO, 7 VDD, 8 GND, 9 OSC0, 10 OSC1, 11 PC7/CCP4, 12 PC6/CCP3, 13 PC5/CCP1, 14 PC4/CCP5, 15 VDD, 16 GND, 17 PA0/U0Rx, 18 PA1/U0Tx, 19 PA2/SSIClk, 20 PA3/SSIFss, 21 PA4/SSIRx, 22 PA5/SSITx, 23 VDD, 24 GND, 25 PWM0/PD0, 26 PWM1/PD1, 27 PD2, 28 PD3, 29 PWM2/PB0, 30 PWM3/PB1, 31 GND, 32 VDD, 33 PB2, 34 Fault/PB3, 35 PWM4/PE0, 36 PWM5/PE1, 37 SWO/TDO/PC3, 38 TDI/PC2, 39 SWDIO/TMS/PC1, 40 SWCLK/TCK/PC0, 41 ~{TRST}/PB7, 42 C0+/PB6, 43 C0o/PB5, 44 C0-/PB4, 45 CCP0/PD4, 46 CCP2/PD5, 47 ADC5, 48 ADC4

## LM3S328
designator U?
footprint LQFP-48
pins: 1 ADC0, 2 ADC1, 3 ADC2, 4 ADC3, 5 ~{RST}, 6 LDO, 7 VDD, 8 GND, 9 OSC0, 10 OSC1, 11 PC7/CCP4, 12 PC6/CCP3, 13 PC5/CCP1, 14 PC4, 15 VDD, 16 GND, 17 PA0/U0Rx, 18 PA1/U0Tx, 19 PA2/SSIClk, 20 PA3/SSIFss, 21 PA4/SSIRx, 22 PA5/SSITx, 23 VDD, 24 GND, 25 PD0, 26 PD1, 27 U1Rx/PD2, 28 U1Tx/PD3, 29 CCP0/PB0, 30 CCP2/PB1, 31 GND, 32 VDD, 33 I2CSCL/PB2, 34 I2CSDA/PB3, 35 PE0, 36 PE1, 37 SWO/TDO/PC3, 38 TDI/PC2, 39 SWDIO/TMS/PC1, 40 SWCLK/TCK/PC0, 41 ~{TRST}/PB7, 42 PB6, 43 CCP5/PB5, 44 PB4, 45 ADC7, 46 ADC6, 47 ADC5, 48 ADC4

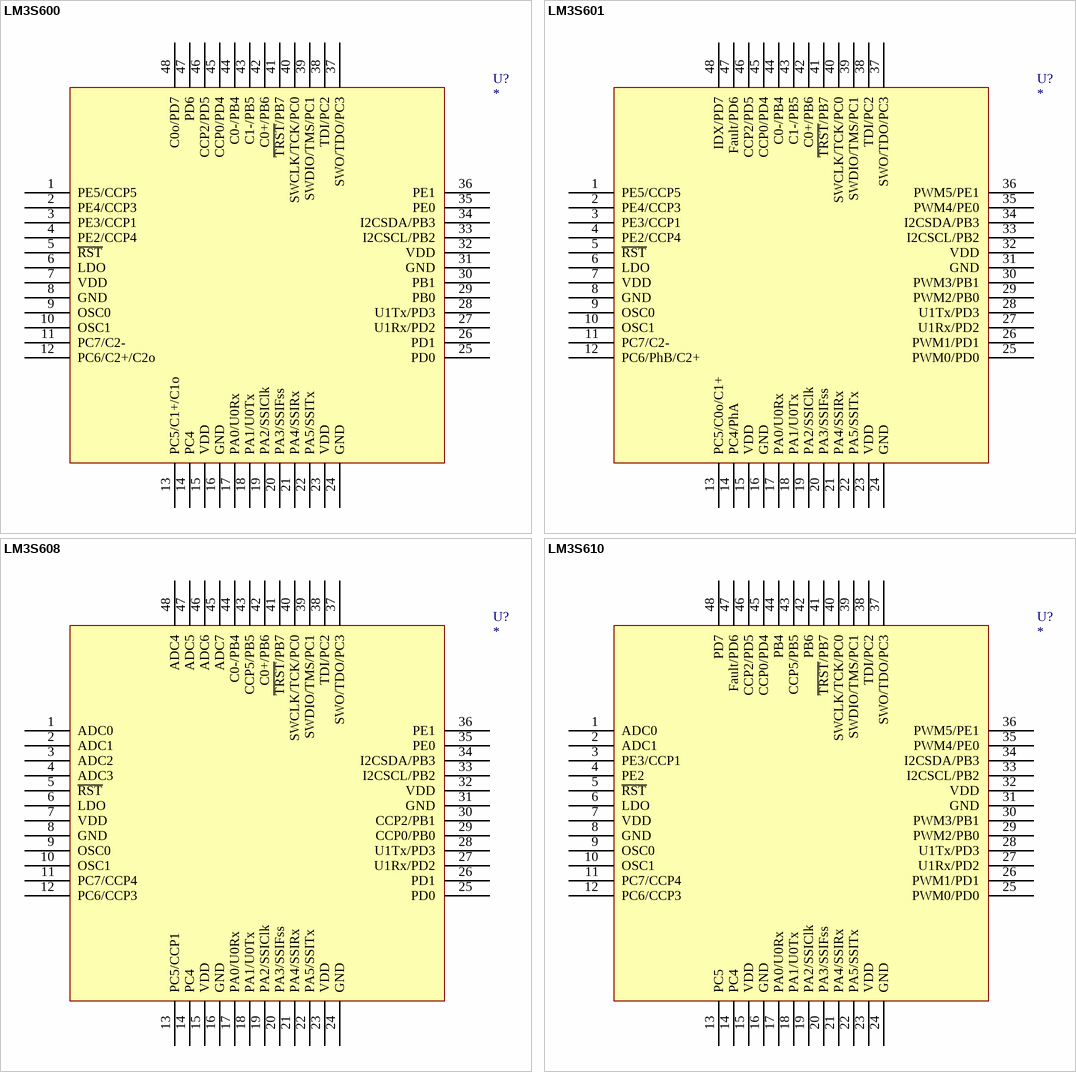
[diagram p17: symbols LM3S600 to LM3S610]

## LM3S600
designator U?
footprint LQFP-48
pins: 1 PE5/CCP5, 2 PE4/CCP3, 3 PE3/CCP1, 4 PE2/CCP4, 5 ~{RST}, 6 LDO, 7 VDD, 8 GND, 9 OSC0, 10 OSC1, 11 PC7/C2-, 12 PC6/C2+/C2o, 13 PC5/C1+/C1o, 14 PC4, 15 VDD, 16 GND, 17 PA0/U0Rx, 18 PA1/U0Tx, 19 PA2/SSIClk, 20 PA3/SSIFss, 21 PA4/SSIRx, 22 PA5/SSITx, 23 VDD, 24 GND, 25 PD0, 26 PD1, 27 U1Rx/PD2, 28 U1Tx/PD3, 29 PB0, 30 PB1, 31 GND, 32 VDD, 33 I2CSCL/PB2, 34 I2CSDA/PB3, 35 PE0, 36 PE1, 37 SWO/TDO/PC3, 38 TDI/PC2, 39 SWDIO/TMS/PC1, 40 SWCLK/TCK/PC0, 41 ~{TRST}/PB7, 42 C0+/PB6, 43 C1-/PB5, 44 C0-/PB4, 45 CCP0/PD4, 46 CCP2/PD5, 47 PD6, 48 C0o/PD7

## LM3S601
designator U?
footprint LQFP-48
pins: 1 PE5/CCP5, 2 PE4/CCP3, 3 PE3/CCP1, 4 PE2/CCP4, 5 ~{RST}, 6 LDO, 7 VDD, 8 GND, 9 OSC0, 10 OSC1, 11 PC7/C2-, 12 PC6/PhB/C2+, 13 PC5/C0o/C1+, 14 PC4/PhA, 15 VDD, 16 GND, 17 PA0/U0Rx, 18 PA1/U0Tx, 19 PA2/SSIClk, 20 PA3/SSIFss, 21 PA4/SSIRx, 22 PA5/SSITx, 23 VDD, 24 GND, 25 PWM0/PD0, 26 PWM1/PD1, 27 U1Rx/PD2, 28 U1Tx/PD3, 29 PWM2/PB0, 30 PWM3/PB1, 31 GND, 32 VDD, 33 I2CSCL/PB2, 34 I2CSDA/PB3, 35 PWM4/PE0, 36 PWM5/PE1, 37 SWO/TDO/PC3, 38 TDI/PC2, 39 SWDIO/TMS/PC1, 40 SWCLK/TCK/PC0, 41 ~{TRST}/PB7, 42 C0+/PB6, 43 C1-/PB5, 44 C0-/PB4, 45 CCP0/PD4, 46 CCP2/PD5, 47 Fault/PD6, 48 IDX/PD7

## LM3S608
designator U?
footprint LQFP-48
pins: 1 ADC0, 2 ADC1, 3 ADC2, 4 ADC3, 5 ~{RST}, 6 LDO, 7 VDD, 8 GND, 9 OSC0, 10 OSC1, 11 PC7/CCP4, 12 PC6/CCP3, 13 PC5/CCP1, 14 PC4, 15 VDD, 16 GND, 17 PA0/U0Rx, 18 PA1/U0Tx, 19 PA2/SSIClk, 20 PA3/SSIFss, 21 PA4/SSIRx, 22 PA5/SSITx, 23 VDD, 24 GND, 25 PD0, 26 PD1, 27 U1Rx/PD2, 28 U1Tx/PD3, 29 CCP0/PB0, 30 CCP2/PB1, 31 GND, 32 VDD, 33 I2CSCL/PB2, 34 I2CSDA/PB3, 35 PE0, 36 PE1, 37 SWO/TDO/PC3, 38 TDI/PC2, 39 SWDIO/TMS/PC1, 40 SWCLK/TCK/PC0, 41 ~{TRST}/PB7, 42 C0+/PB6, 43 CCP5/PB5, 44 C0-/PB4, 45 ADC7, 46 ADC6, 47 ADC5, 48 ADC4

## LM3S610
designator U?
footprint LQFP-48
pins: 1 ADC0, 2 ADC1, 3 PE3/CCP1, 4 PE2, 5 ~{RST}, 6 LDO, 7 VDD, 8 GND, 9 OSC0, 10 OSC1, 11 PC7/CCP4, 12 PC6/CCP3, 13 PC5, 14 PC4, 15 VDD, 16 GND, 17 PA0/U0Rx, 18 PA1/U0Tx, 19 PA2/SSIClk, 20 PA3/SSIFss, 21 PA4/SSIRx, 22 PA5/SSITx, 23 VDD, 24 GND, 25 PWM0/PD0, 26 PWM1/PD1, 27 U1Rx/PD2, 28 U1Tx/PD3, 29 PWM2/PB0, 30 PWM3/PB1, 31 GND, 32 VDD, 33 I2CSCL/PB2, 34 I2CSDA/PB3, 35 PWM4/PE0, 36 PWM5/PE1, 37 SWO/TDO/PC3, 38 TDI/PC2, 39 SWDIO/TMS/PC1, 40 SWCLK/TCK/PC0, 41 ~{TRST}/PB7, 42 PB6, 43 CCP5/PB5, 44 PB4, 45 CCP0/PD4, 46 CCP2/PD5, 47 Fault/PD6, 48 PD7

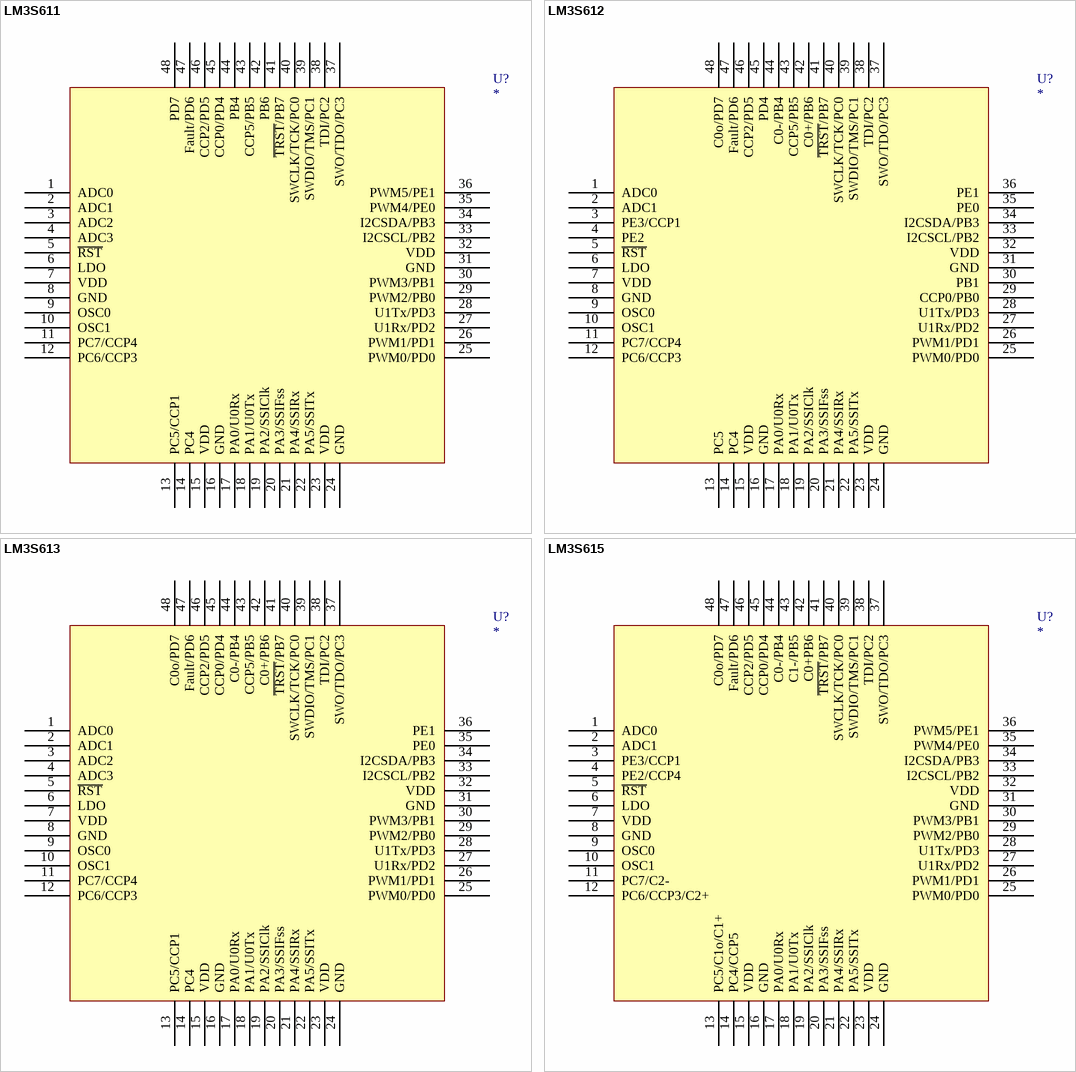
[diagram p18: symbols LM3S611 to LM3S615]

## LM3S611
designator U?
footprint LQFP-48
pins: 1 ADC0, 2 ADC1, 3 ADC2, 4 ADC3, 5 ~{RST}, 6 LDO, 7 VDD, 8 GND, 9 OSC0, 10 OSC1, 11 PC7/CCP4, 12 PC6/CCP3, 13 PC5/CCP1, 14 PC4, 15 VDD, 16 GND, 17 PA0/U0Rx, 18 PA1/U0Tx, 19 PA2/SSIClk, 20 PA3/SSIFss, 21 PA4/SSIRx, 22 PA5/SSITx, 23 VDD, 24 GND, 25 PWM0/PD0, 26 PWM1/PD1, 27 U1Rx/PD2, 28 U1Tx/PD3, 29 PWM2/PB0, 30 PWM3/PB1, 31 GND, 32 VDD, 33 I2CSCL/PB2, 34 I2CSDA/PB3, 35 PWM4/PE0, 36 PWM5/PE1, 37 SWO/TDO/PC3, 38 TDI/PC2, 39 SWDIO/TMS/PC1, 40 SWCLK/TCK/PC0, 41 ~{TRST}/PB7, 42 PB6, 43 CCP5/PB5, 44 PB4, 45 CCP0/PD4, 46 CCP2/PD5, 47 Fault/PD6, 48 PD7

## LM3S612
designator U?
footprint LQFP-48
pins: 1 ADC0, 2 ADC1, 3 PE3/CCP1, 4 PE2, 5 ~{RST}, 6 LDO, 7 VDD, 8 GND, 9 OSC0, 10 OSC1, 11 PC7/CCP4, 12 PC6/CCP3, 13 PC5, 14 PC4, 15 VDD, 16 GND, 17 PA0/U0Rx, 18 PA1/U0Tx, 19 PA2/SSIClk, 20 PA3/SSIFss, 21 PA4/SSIRx, 22 PA5/SSITx, 23 VDD, 24 GND, 25 PWM0/PD0, 26 PWM1/PD1, 27 U1Rx/PD2, 28 U1Tx/PD3, 29 CCP0/PB0, 30 PB1, 31 GND, 32 VDD, 33 I2CSCL/PB2, 34 I2CSDA/PB3, 35 PE0, 36 PE1, 37 SWO/TDO/PC3, 38 TDI/PC2, 39 SWDIO/TMS/PC1, 40 SWCLK/TCK/PC0, 41 ~{TRST}/PB7, 42 C0+/PB6, 43 CCP5/PB5, 44 C0-/PB4, 45 PD4, 46 CCP2/PD5, 47 Fault/PD6, 48 C0o/PD7

## LM3S613
designator U?
footprint LQFP-48
pins: 1 ADC0, 2 ADC1, 3 ADC2, 4 ADC3, 5 ~{RST}, 6 LDO, 7 VDD, 8 GND, 9 OSC0, 10 OSC1, 11 PC7/CCP4, 12 PC6/CCP3, 13 PC5/CCP1, 14 PC4, 15 VDD, 16 GND, 17 PA0/U0Rx, 18 PA1/U0Tx, 19 PA2/SSIClk, 20 PA3/SSIFss, 21 PA4/SSIRx, 22 PA5/SSITx, 23 VDD, 24 GND, 25 PWM0/PD0, 26 PWM1/PD1, 27 U1Rx/PD2, 28 U1Tx/PD3, 29 PWM2/PB0, 30 PWM3/PB1, 31 GND, 32 VDD, 33 I2CSCL/PB2, 34 I2CSDA/PB3, 35 PE0, 36 PE1, 37 SWO/TDO/PC3, 38 TDI/PC2, 39 SWDIO/TMS/PC1, 40 SWCLK/TCK/PC0, 41 ~{TRST}/PB7, 42 C0+/PB6, 43 CCP5/PB5, 44 C0-/PB4, 45 CCP0/PD4, 46 CCP2/PD5, 47 Fault/PD6, 48 C0o/PD7

## LM3S615
designator U?
footprint LQFP-48
pins: 1 ADC0, 2 ADC1, 3 PE3/CCP1, 4 PE2/CCP4, 5 ~{RST}, 6 LDO, 7 VDD, 8 GND, 9 OSC0, 10 OSC1, 11 PC7/C2-, 12 PC6/CCP3/C2+, 13 PC5/C1o/C1+, 14 PC4/CCP5, 15 VDD, 16 GND, 17 PA0/U0Rx, 18 PA1/U0Tx, 19 PA2/SSIClk, 20 PA3/SSIFss, 21 PA4/SSIRx, 22 PA5/SSITx, 23 VDD, 24 GND, 25 PWM0/PD0, 26 PWM1/PD1, 27 U1Rx/PD2, 28 U1Tx/PD3, 29 PWM2/PB0, 30 PWM3/PB1, 31 GND, 32 VDD, 33 I2CSCL/PB2, 34 I2CSDA/PB3, 35 PWM4/PE0, 36 PWM5/PE1, 37 SWO/TDO/PC3, 38 TDI/PC2, 39 SWDIO/TMS/PC1, 40 SWCLK/TCK/PC0, 41 ~{TRST}/PB7, 42 C0+PB6, 43 C1-/PB5, 44 C0-/PB4, 45 CCP0/PD4, 46 CCP2/PD5, 47 Fault/PD6, 48 C0o/PD7

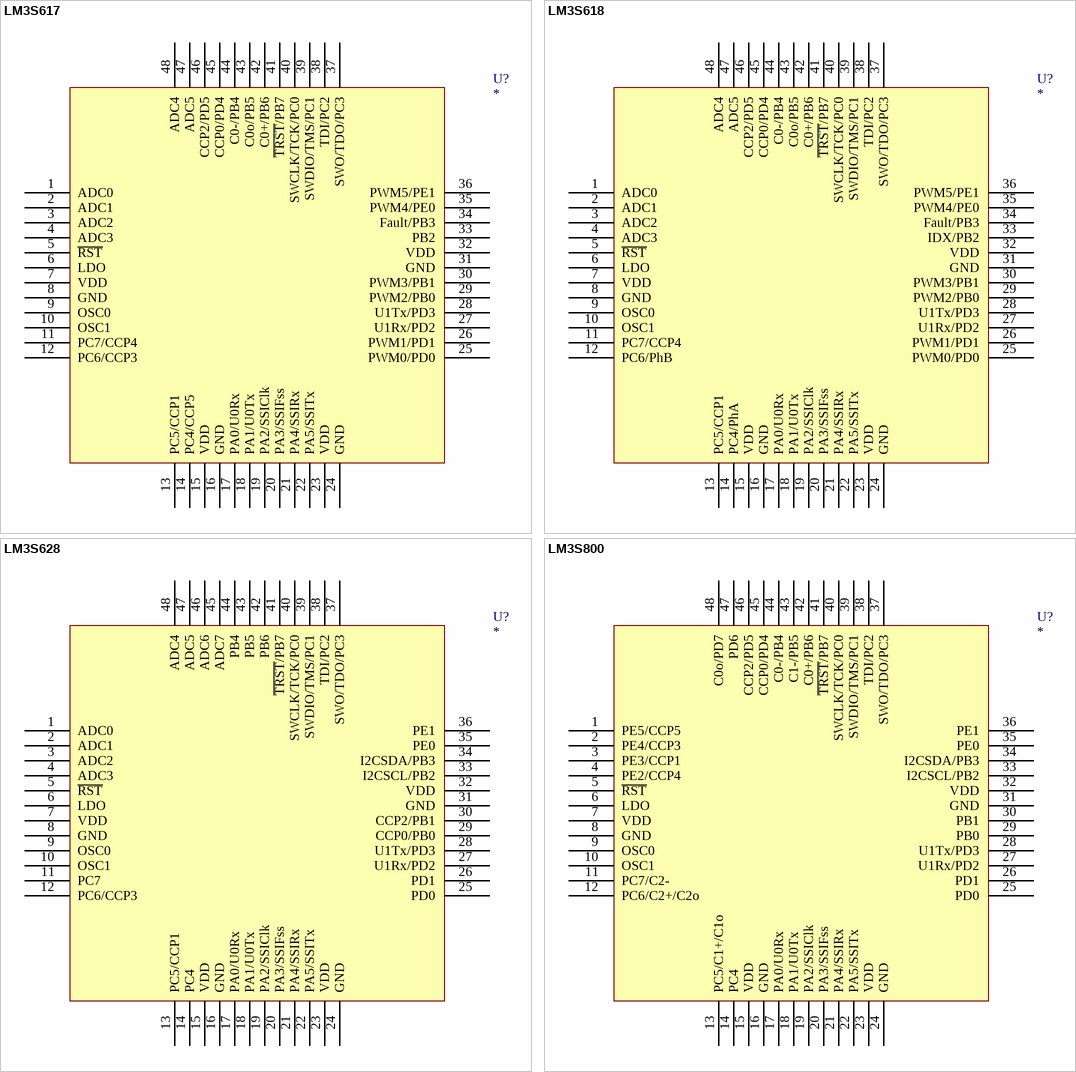
[diagram p19: symbols LM3S617 to LM3S800]

## LM3S617
designator U?
footprint LQFP-48
pins: 1 ADC0, 2 ADC1, 3 ADC2, 4 ADC3, 5 ~{RST}, 6 LDO, 7 VDD, 8 GND, 9 OSC0, 10 OSC1, 11 PC7/CCP4, 12 PC6/CCP3, 13 PC5/CCP1, 14 PC4/CCP5, 15 VDD, 16 GND, 17 PA0/U0Rx, 18 PA1/U0Tx, 19 PA2/SSIClk, 20 PA3/SSIFss, 21 PA4/SSIRx, 22 PA5/SSITx, 23 VDD, 24 GND, 25 PWM0/PD0, 26 PWM1/PD1, 27 U1Rx/PD2, 28 U1Tx/PD3, 29 PWM2/PB0, 30 PWM3/PB1, 31 GND, 32 VDD, 33 PB2, 34 Fault/PB3, 35 PWM4/PE0, 36 PWM5/PE1, 37 SWO/TDO/PC3, 38 TDI/PC2, 39 SWDIO/TMS/PC1, 40 SWCLK/TCK/PC0, 41 ~{TRST}/PB7, 42 C0+/PB6, 43 C0o/PB5, 44 C0-/PB4, 45 CCP0/PD4, 46 CCP2/PD5, 47 ADC5, 48 ADC4

## LM3S618
designator U?
footprint LQFP-48
pins: 1 ADC0, 2 ADC1, 3 ADC2, 4 ADC3, 5 ~{RST}, 6 LDO, 7 VDD, 8 GND, 9 OSC0, 10 OSC1, 11 PC7/CCP4, 12 PC6/PhB, 13 PC5/CCP1, 14 PC4/PhA, 15 VDD, 16 GND, 17 PA0/U0Rx, 18 PA1/U0Tx, 19 PA2/SSIClk, 20 PA3/SSIFss, 21 PA4/SSIRx, 22 PA5/SSITx, 23 VDD, 24 GND, 25 PWM0/PD0, 26 PWM1/PD1, 27 U1Rx/PD2, 28 U1Tx/PD3, 29 PWM2/PB0, 30 PWM3/PB1, 31 GND, 32 VDD, 33 IDX/PB2, 34 Fault/PB3, 35 PWM4/PE0, 36 PWM5/PE1, 37 SWO/TDO/PC3, 38 TDI/PC2, 39 SWDIO/TMS/PC1, 40 SWCLK/TCK/PC0, 41 ~{TRST}/PB7, 42 C0+/PB6, 43 C0o/PB5, 44 C0-/PB4, 45 CCP0/PD4, 46 CCP2/PD5, 47 ADC5, 48 ADC4

## LM3S628
designator U?
footprint LQFP-48
pins: 1 ADC0, 2 ADC1, 3 ADC2, 4 ADC3, 5 ~{RST}, 6 LDO, 7 VDD, 8 GND, 9 OSC0, 10 OSC1, 11 PC7, 12 PC6/CCP3, 13 PC5/CCP1, 14 PC4, 15 VDD, 16 GND, 17 PA0/U0Rx, 18 PA1/U0Tx, 19 PA2/SSIClk, 20 PA3/SSIFss, 21 PA4/SSIRx, 22 PA5/SSITx, 23 VDD, 24 GND, 25 PD0, 26 PD1, 27 U1Rx/PD2, 28 U1Tx/PD3, 29 CCP0/PB0, 30 CCP2/PB1, 31 GND, 32 VDD, 33 I2CSCL/PB2, 34 I2CSDA/PB3, 35 PE0, 36 PE1, 37 SWO/TDO/PC3, 38 TDI/PC2, 39 SWDIO/TMS/PC1, 40 SWCLK/TCK/PC0, 41 ~{TRST}/PB7, 42 PB6, 43 PB5, 44 PB4, 45 ADC7, 46 ADC6, 47 ADC5, 48 ADC4

## LM3S800
designator U?
footprint LQFP-48
pins: 1 PE5/CCP5, 2 PE4/CCP3, 3 PE3/CCP1, 4 PE2/CCP4, 5 ~{RST}, 6 LDO, 7 VDD, 8 GND, 9 OSC0, 10 OSC1, 11 PC7/C2-, 12 PC6/C2+/C2o, 13 PC5/C1+/C1o, 14 PC4, 15 VDD, 16 GND, 17 PA0/U0Rx, 18 PA1/U0Tx, 19 PA2/SSIClk, 20 PA3/SSIFss, 21 PA4/SSIRx, 22 PA5/SSITx, 23 VDD, 24 GND, 25 PD0, 26 PD1, 27 U1Rx/PD2, 28 U1Tx/PD3, 29 PB0, 30 PB1, 31 GND, 32 VDD, 33 I2CSCL/PB2, 34 I2CSDA/PB3, 35 PE0, 36 PE1, 37 SWO/TDO/PC3, 38 TDI/PC2, 39 SWDIO/TMS/PC1, 40 SWCLK/TCK/PC0, 41 ~{TRST}/PB7, 42 C0+/PB6, 43 C1-/PB5, 44 C0-/PB4, 45 CCP0/PD4, 46 CCP2/PD5, 47 PD6, 48 C0o/PD7

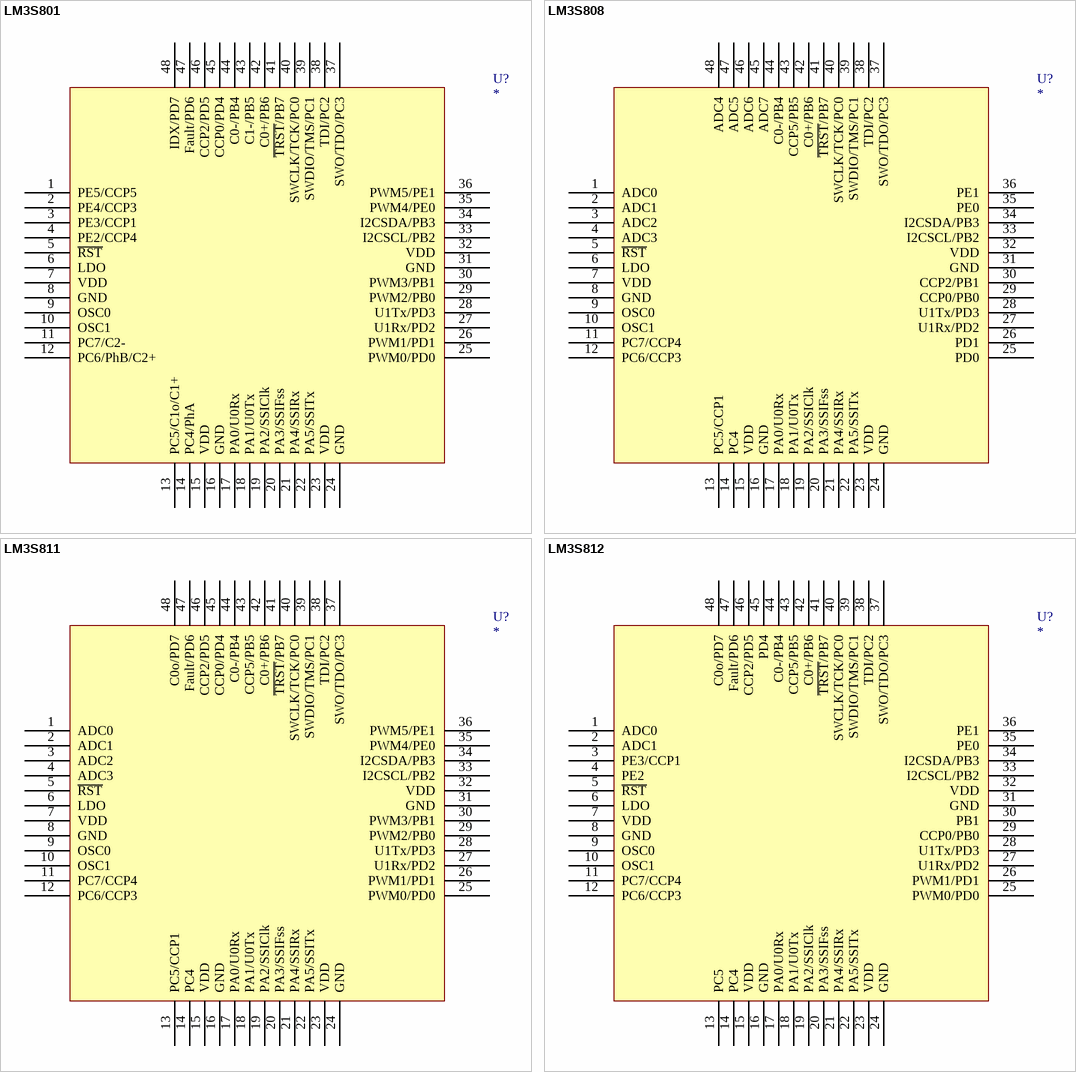
[diagram p20: symbols LM3S801 to LM3S812]

## LM3S801
designator U?
footprint LQFP-48
pins: 1 PE5/CCP5, 2 PE4/CCP3, 3 PE3/CCP1, 4 PE2/CCP4, 5 ~{RST}, 6 LDO, 7 VDD, 8 GND, 9 OSC0, 10 OSC1, 11 PC7/C2-, 12 PC6/PhB/C2+, 13 PC5/C1o/C1+, 14 PC4/PhA, 15 VDD, 16 GND, 17 PA0/U0Rx, 18 PA1/U0Tx, 19 PA2/SSIClk, 20 PA3/SSIFss, 21 PA4/SSIRx, 22 PA5/SSITx, 23 VDD, 24 GND, 25 PWM0/PD0, 26 PWM1/PD1, 27 U1Rx/PD2, 28 U1Tx/PD3, 29 PWM2/PB0, 30 PWM3/PB1, 31 GND, 32 VDD, 33 I2CSCL/PB2, 34 I2CSDA/PB3, 35 PWM4/PE0, 36 PWM5/PE1, 37 SWO/TDO/PC3, 38 TDI/PC2, 39 SWDIO/TMS/PC1, 40 SWCLK/TCK/PC0, 41 ~{TRST}/PB7, 42 C0+/PB6, 43 C1-/PB5, 44 C0-/PB4, 45 CCP0/PD4, 46 CCP2/PD5, 47 Fault/PD6, 48 IDX/PD7

## LM3S808
designator U?
footprint LQFP-48
pins: 1 ADC0, 2 ADC1, 3 ADC2, 4 ADC3, 5 ~{RST}, 6 LDO, 7 VDD, 8 GND, 9 OSC0, 10 OSC1, 11 PC7/CCP4, 12 PC6/CCP3, 13 PC5/CCP1, 14 PC4, 15 VDD, 16 GND, 17 PA0/U0Rx, 18 PA1/U0Tx, 19 PA2/SSIClk, 20 PA3/SSIFss, 21 PA4/SSIRx, 22 PA5/SSITx, 23 VDD, 24 GND, 25 PD0, 26 PD1, 27 U1Rx/PD2, 28 U1Tx/PD3, 29 CCP0/PB0, 30 CCP2/PB1, 31 GND, 32 VDD, 33 I2CSCL/PB2, 34 I2CSDA/PB3, 35 PE0, 36 PE1, 37 SWO/TDO/PC3, 38 TDI/PC2, 39 SWDIO/TMS/PC1, 40 SWCLK/TCK/PC0, 41 ~{TRST}/PB7, 42 C0+/PB6, 43 CCP5/PB5, 44 C0-/PB4, 45 ADC7, 46 ADC6, 47 ADC5, 48 ADC4

## LM3S811
designator U?
footprint LQFP-48
pins: 1 ADC0, 2 ADC1, 3 ADC2, 4 ADC3, 5 ~{RST}, 6 LDO, 7 VDD, 8 GND, 9 OSC0, 10 OSC1, 11 PC7/CCP4, 12 PC6/CCP3, 13 PC5/CCP1, 14 PC4, 15 VDD, 16 GND, 17 PA0/U0Rx, 18 PA1/U0Tx, 19 PA2/SSIClk, 20 PA3/SSIFss, 21 PA4/SSIRx, 22 PA5/SSITx, 23 VDD, 24 GND, 25 PWM0/PD0, 26 PWM1/PD1, 27 U1Rx/PD2, 28 U1Tx/PD3, 29 PWM2/PB0, 30 PWM3/PB1, 31 GND, 32 VDD, 33 I2CSCL/PB2, 34 I2CSDA/PB3, 35 PWM4/PE0, 36 PWM5/PE1, 37 SWO/TDO/PC3, 38 TDI/PC2, 39 SWDIO/TMS/PC1, 40 SWCLK/TCK/PC0, 41 ~{TRST}/PB7, 42 C0+/PB6, 43 CCP5/PB5, 44 C0-/PB4, 45 CCP0/PD4, 46 CCP2/PD5, 47 Fault/PD6, 48 C0o/PD7

## LM3S812
designator U?
footprint LQFP-48
pins: 1 ADC0, 2 ADC1, 3 PE3/CCP1, 4 PE2, 5 ~{RST}, 6 LDO, 7 VDD, 8 GND, 9 OSC0, 10 OSC1, 11 PC7/CCP4, 12 PC6/CCP3, 13 PC5, 14 PC4, 15 VDD, 16 GND, 17 PA0/U0Rx, 18 PA1/U0Tx, 19 PA2/SSIClk, 20 PA3/SSIFss, 21 PA4/SSIRx, 22 PA5/SSITx, 23 VDD, 24 GND, 25 PWM0/PD0, 26 PWM1/PD1, 27 U1Rx/PD2, 28 U1Tx/PD3, 29 CCP0/PB0, 30 PB1, 31 GND, 32 VDD, 33 I2CSCL/PB2, 34 I2CSDA/PB3, 35 PE0, 36 PE1, 37 SWO/TDO/PC3, 38 TDI/PC2, 39 SWDIO/TMS/PC1, 40 SWCLK/TCK/PC0, 41 ~{TRST}/PB7, 42 C0+/PB6, 43 CCP5/PB5, 44 C0-/PB4, 45 PD4, 46 CCP2/PD5, 47 Fault/PD6, 48 C0o/PD7

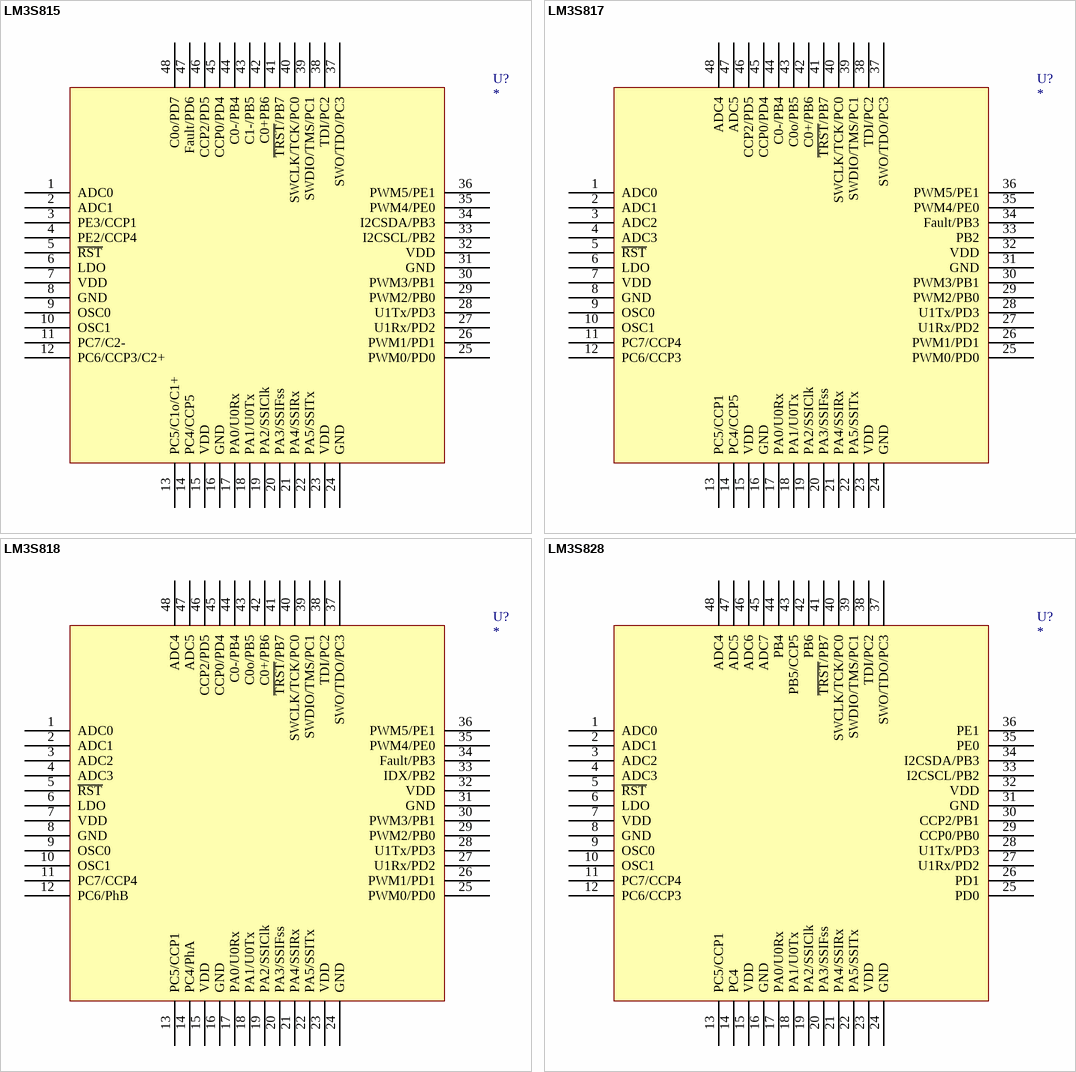
[diagram p21: symbols LM3S815 to LM3S828]

## LM3S815
designator U?
footprint LQFP-48
pins: 1 ADC0, 2 ADC1, 3 PE3/CCP1, 4 PE2/CCP4, 5 ~{RST}, 6 LDO, 7 VDD, 8 GND, 9 OSC0, 10 OSC1, 11 PC7/C2-, 12 PC6/CCP3/C2+, 13 PC5/C1o/C1+, 14 PC4/CCP5, 15 VDD, 16 GND, 17 PA0/U0Rx, 18 PA1/U0Tx, 19 PA2/SSIClk, 20 PA3/SSIFss, 21 PA4/SSIRx, 22 PA5/SSITx, 23 VDD, 24 GND, 25 PWM0/PD0, 26 PWM1/PD1, 27 U1Rx/PD2, 28 U1Tx/PD3, 29 PWM2/PB0, 30 PWM3/PB1, 31 GND, 32 VDD, 33 I2CSCL/PB2, 34 I2CSDA/PB3, 35 PWM4/PE0, 36 PWM5/PE1, 37 SWO/TDO/PC3, 38 TDI/PC2, 39 SWDIO/TMS/PC1, 40 SWCLK/TCK/PC0, 41 ~{TRST}/PB7, 42 C0+PB6, 43 C1-/PB5, 44 C0-/PB4, 45 CCP0/PD4, 46 CCP2/PD5, 47 Fault/PD6, 48 C0o/PD7

## LM3S817
designator U?
footprint LQFP-48
pins: 1 ADC0, 2 ADC1, 3 ADC2, 4 ADC3, 5 ~{RST}, 6 LDO, 7 VDD, 8 GND, 9 OSC0, 10 OSC1, 11 PC7/CCP4, 12 PC6/CCP3, 13 PC5/CCP1, 14 PC4/CCP5, 15 VDD, 16 GND, 17 PA0/U0Rx, 18 PA1/U0Tx, 19 PA2/SSIClk, 20 PA3/SSIFss, 21 PA4/SSIRx, 22 PA5/SSITx, 23 VDD, 24 GND, 25 PWM0/PD0, 26 PWM1/PD1, 27 U1Rx/PD2, 28 U1Tx/PD3, 29 PWM2/PB0, 30 PWM3/PB1, 31 GND, 32 VDD, 33 PB2, 34 Fault/PB3, 35 PWM4/PE0, 36 PWM5/PE1, 37 SWO/TDO/PC3, 38 TDI/PC2, 39 SWDIO/TMS/PC1, 40 SWCLK/TCK/PC0, 41 ~{TRST}/PB7, 42 C0+/PB6, 43 C0o/PB5, 44 C0-/PB4, 45 CCP0/PD4, 46 CCP2/PD5, 47 ADC5, 48 ADC4

## LM3S818
designator U?
footprint LQFP-48
pins: 1 ADC0, 2 ADC1, 3 ADC2, 4 ADC3, 5 ~{RST}, 6 LDO, 7 VDD, 8 GND, 9 OSC0, 10 OSC1, 11 PC7/CCP4, 12 PC6/PhB, 13 PC5/CCP1, 14 PC4/PhA, 15 VDD, 16 GND, 17 PA0/U0Rx, 18 PA1/U0Tx, 19 PA2/SSIClk, 20 PA3/SSIFss, 21 PA4/SSIRx, 22 PA5/SSITx, 23 VDD, 24 GND, 25 PWM0/PD0, 26 PWM1/PD1, 27 U1Rx/PD2, 28 U1Tx/PD3, 29 PWM2/PB0, 30 PWM3/PB1, 31 GND, 32 VDD, 33 IDX/PB2, 34 Fault/PB3, 35 PWM4/PE0, 36 PWM5/PE1, 37 SWO/TDO/PC3, 38 TDI/PC2, 39 SWDIO/TMS/PC1, 40 SWCLK/TCK/PC0, 41 ~{TRST}/PB7, 42 C0+/PB6, 43 C0o/PB5, 44 C0-/PB4, 45 CCP0/PD4, 46 CCP2/PD5, 47 ADC5, 48 ADC4

## LM3S828
designator U?
footprint LQFP-48
pins: 1 ADC0, 2 ADC1, 3 ADC2, 4 ADC3, 5 ~{RST}, 6 LDO, 7 VDD, 8 GND, 9 OSC0, 10 OSC1, 11 PC7/CCP4, 12 PC6/CCP3, 13 PC5/CCP1, 14 PC4, 15 VDD, 16 GND, 17 PA0/U0Rx, 18 PA1/U0Tx, 19 PA2/SSIClk, 20 PA3/SSIFss, 21 PA4/SSIRx, 22 PA5/SSITx, 23 VDD, 24 GND, 25 PD0, 26 PD1, 27 U1Rx/PD2, 28 U1Tx/PD3, 29 CCP0/PB0, 30 CCP2/PB1, 31 GND, 32 VDD, 33 I2CSCL/PB2, 34 I2CSDA/PB3, 35 PE0, 36 PE1, 37 SWO/TDO/PC3, 38 TDI/PC2, 39 SWDIO/TMS/PC1, 40 SWCLK/TCK/PC0, 41 ~{TRST}/PB7, 42 PB6, 43 PB5/CCP5, 44 PB4, 45 ADC7, 46 ADC6, 47 ADC5, 48 ADC4

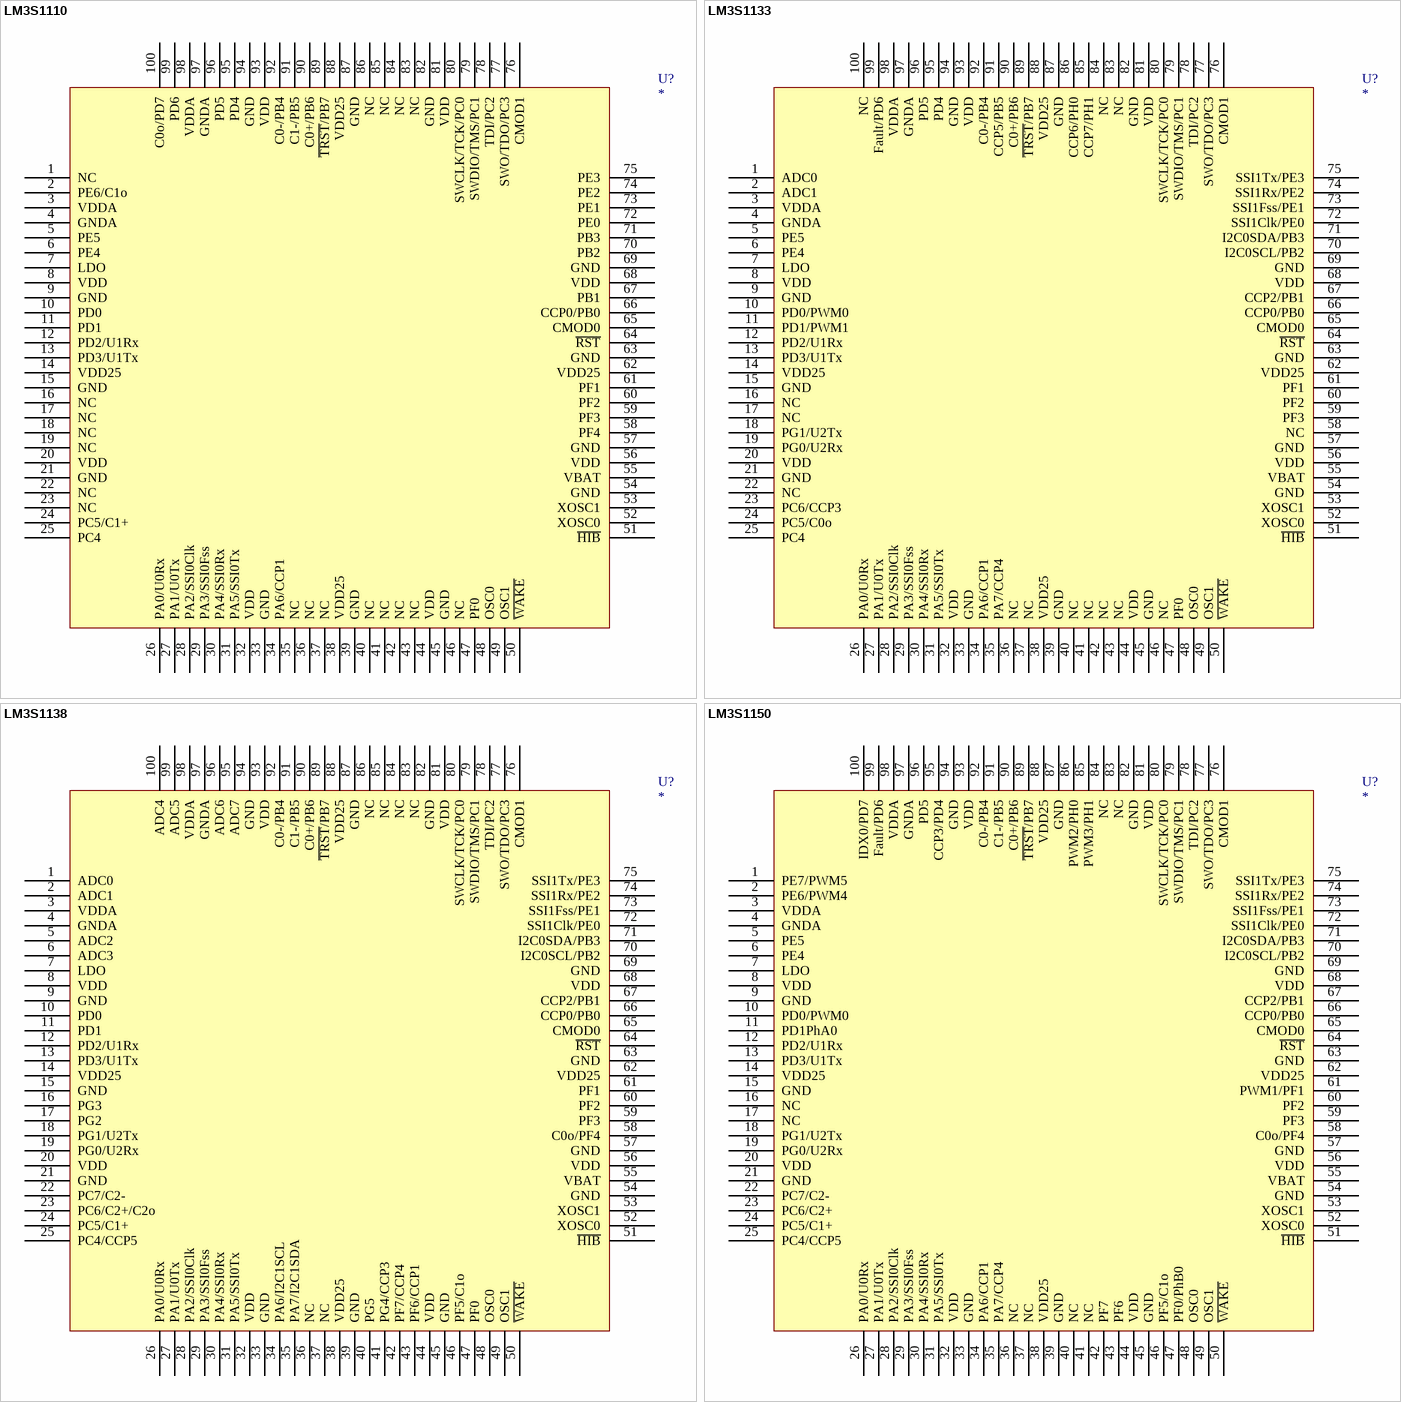
[diagram p22: symbols LM3S1110 to LM3S1150]

## LM3S1110
designator U?
footprint LQFP-100
pins: 1 NC, 2 PE6/C1o, 3 VDDA, 4 GNDA, 5 PE5, 6 PE4, 7 LDO, 8 VDD, 9 GND, 10 PD0, 11 PD1, 12 PD2/U1Rx, 13 PD3/U1Tx, 14 VDD25, 15 GND, 16 NC, 17 NC, 18 NC, 19 NC, 20 VDD, 21 GND, 22 NC, 23 NC, 24 PC5/C1+, 25 PC4, 26 PA0/U0Rx, 27 PA1/U0Tx, 28 PA2/SSI0Clk, 29 PA3/SSI0Fss, 30 PA4/SSI0Rx, 31 PA5/SSI0Tx, 32 VDD, 33 GND, 34 PA6/CCP1, 35 NC, 36 NC, 37 NC, 38 VDD25, 39 GND, 40 NC, 41 NC, 42 NC, 43 NC, 44 VDD, 45 GND, 46 NC, 47 PF0, 48 OSC0, 49 OSC1, 50 ~{WAKE}, 51 ~{HIB}, 52 XOSC0, 53 XOSC1, 54 GND, 55 VBAT, 56 VDD, 57 GND, 58 PF4, 59 PF3, 60 PF2, 61 PF1, 62 VDD25, 63 GND, 64 ~{RST}, 65 CMOD0, 66 CCP0/PB0, 67 PB1, 68 VDD, 69 GND, 70 PB2, 71 PB3, 72 PE0, 73 PE1, 74 PE2, 75 PE3, 76 CMOD1, 77 SWO/TDO/PC3, 78 TDI/PC2, 79 SWDIO/TMS/PC1, 80 SWCLK/TCK/PC0, 81 VDD, 82 GND, 83 NC, 84 NC, 85 NC, 86 NC, 87 GND, 88 VDD25, 89 ~{TRST}/PB7, 90 C0+/PB6, 91 C1-/PB5, 92 C0-/PB4, 93 VDD, 94 GND, 95 PD4, 96 PD5, 97 GNDA, 98 VDDA, 99 PD6, 100 C0o/PD7

## LM3S1133
designator U?
footprint LQFP-100
pins: 1 ADC0, 2 ADC1, 3 VDDA, 4 GNDA, 5 PE5, 6 PE4, 7 LDO, 8 VDD, 9 GND, 10 PD0/PWM0, 11 PD1/PWM1, 12 PD2/U1Rx, 13 PD3/U1Tx, 14 VDD25, 15 GND, 16 NC, 17 NC, 18 PG1/U2Tx, 19 PG0/U2Rx, 20 VDD, 21 GND, 22 NC, 23 PC6/CCP3, 24 PC5/C0o, 25 PC4, 26 PA0/U0Rx, 27 PA1/U0Tx, 28 PA2/SSI0Clk, 29 PA3/SSI0Fss, 30 PA4/SSI0Rx, 31 PA5/SSI0Tx, 32 VDD, 33 GND, 34 PA6/CCP1, 35 PA7/CCP4, 36 NC, 37 NC, 38 VDD25, 39 GND, 40 NC, 41 NC, 42 NC, 43 NC, 44 VDD, 45 GND, 46 NC, 47 PF0, 48 OSC0, 49 OSC1, 50 ~{WAKE}, 51 ~{HIB}, 52 XOSC0, 53 XOSC1, 54 GND, 55 VBAT, 56 VDD, 57 GND, 58 NC, 59 PF3, 60 PF2, 61 PF1, 62 VDD25, 63 GND, 64 ~{RST}, 65 CMOD0, 66 CCP0/PB0, 67 CCP2/PB1, 68 VDD, 69 GND, 70 I2C0SCL/PB2, 71 I2C0SDA/PB3, 72 SSI1Clk/PE0, 73 SSI1Fss/PE1, 74 SSI1Rx/PE2, 75 SSI1Tx/PE3, 76 CMOD1, 77 SWO/TDO/PC3, 78 TDI/PC2, 79 SWDIO/TMS/PC1, 80 SWCLK/TCK/PC0, 81 VDD, 82 GND, 83 NC, 84 NC, 85 CCP7/PH1, 86 CCP6/PH0, 87 GND, 88 VDD25, 89 ~{TRST}/PB7, 90 C0+/PB6, 91 CCP5/PB5, 92 C0-/PB4, 93 VDD, 94 GND, 95 PD4, 96 PD5, 97 GNDA, 98 VDDA, 99 Fault/PD6, 100 NC

## LM3S1138
designator U?
footprint LQFP-100
pins: 1 ADC0, 2 ADC1, 3 VDDA, 4 GNDA, 5 ADC2, 6 ADC3, 7 LDO, 8 VDD, 9 GND, 10 PD0, 11 PD1, 12 PD2/U1Rx, 13 PD3/U1Tx, 14 VDD25, 15 GND, 16 PG3, 17 PG2, 18 PG1/U2Tx, 19 PG0/U2Rx, 20 VDD, 21 GND, 22 PC7/C2-, 23 PC6/C2+/C2o, 24 PC5/C1+, 25 PC4/CCP5, 26 PA0/U0Rx, 27 PA1/U0Tx, 28 PA2/SSI0Clk, 29 PA3/SSI0Fss, 30 PA4/SSI0Rx, 31 PA5/SSI0Tx, 32 VDD, 33 GND, 34 PA6/I2C1SCL, 35 PA7/I2C1SDA, 36 NC, 37 NC, 38 VDD25, 39 GND, 40 PG5, 41 PG4/CCP3, 42 PF7/CCP4, 43 PF6/CCP1, 44 VDD, 45 GND, 46 PF5/C1o, 47 PF0, 48 OSC0, 49 OSC1, 50 ~{WAKE}, 51 ~{HIB}, 52 XOSC0, 53 XOSC1, 54 GND, 55 VBAT, 56 VDD, 57 GND, 58 C0o/PF4, 59 PF3, 60 PF2, 61 PF1, 62 VDD25, 63 GND, 64 ~{RST}, 65 CMOD0, 66 CCP0/PB0, 67 CCP2/PB1, 68 VDD, 69 GND, 70 I2C0SCL/PB2, 71 I2C0SDA/PB3, 72 SSI1Clk/PE0, 73 SSI1Fss/PE1, 74 SSI1Rx/PE2, 75 SSI1Tx/PE3, 76 CMOD1, 77 SWO/TDO/PC3, 78 TDI/PC2, 79 SWDIO/TMS/PC1, 80 SWCLK/TCK/PC0, 81 VDD, 82 GND, 83 NC, 84 NC, 85 NC, 86 NC, 87 GND, 88 VDD25, 89 ~{TRST}/PB7, 90 C0+/PB6, 91 C1-/PB5, 92 C0-/PB4, 93 VDD, 94 GND, 95 ADC7, 96 ADC6, 97 GNDA, 98 VDDA, 99 ADC5, 100 ADC4

## LM3S1150
designator U?
footprint LQFP-100
pins: 1 PE7/PWM5, 2 PE6/PWM4, 3 VDDA, 4 GNDA, 5 PE5, 6 PE4, 7 LDO, 8 VDD, 9 GND, 10 PD0/PWM0, 11 PD1PhA0, 12 PD2/U1Rx, 13 PD3/U1Tx, 14 VDD25, 15 GND, 16 NC, 17 NC, 18 PG1/U2Tx, 19 PG0/U2Rx, 20 VDD, 21 GND, 22 PC7/C2-, 23 PC6/C2+, 24 PC5/C1+, 25 PC4/CCP5, 26 PA0/U0Rx, 27 PA1/U0Tx, 28 PA2/SSI0Clk, 29 PA3/SSI0Fss, 30 PA4/SSI0Rx, 31 PA5/SSI0Tx, 32 VDD, 33 GND, 34 PA6/CCP1, 35 PA7/CCP4, 36 NC, 37 NC, 38 VDD25, 39 GND, 40 NC, 41 NC, 42 PF7, 43 PF6, 44 VDD, 45 GND, 46 PF5/C1o, 47 PF0/PhB0, 48 OSC0, 49 OSC1, 50 ~{WAKE}, 51 ~{HIB}, 52 XOSC0, 53 XOSC1, 54 GND, 55 VBAT, 56 VDD, 57 GND, 58 C0o/PF4, 59 PF3, 60 PF2, 61 PWM1/PF1, 62 VDD25, 63 GND, 64 ~{RST}, 65 CMOD0, 66 CCP0/PB0, 67 CCP2/PB1, 68 VDD, 69 GND, 70 I2C0SCL/PB2, 71 I2C0SDA/PB3, 72 SSI1Clk/PE0, 73 SSI1Fss/PE1, 74 SSI1Rx/PE2, 75 SSI1Tx/PE3, 76 CMOD1, 77 SWO/TDO/PC3, 78 TDI/PC2, 79 SWDIO/TMS/PC1, 80 SWCLK/TCK/PC0, 81 VDD, 82 GND, 83 NC, 84 NC, 85 PWM3/PH1, 86 PWM2/PH0, 87 GND, 88 VDD25, 89 ~{TRST}/PB7, 90 C0+/PB6, 91 C1-/PB5, 92 C0-/PB4, 93 VDD, 94 GND, 95 CCP3/PD4, 96 PD5, 97 GNDA, 98 VDDA, 99 Fault/PD6, 100 IDX0/PD7

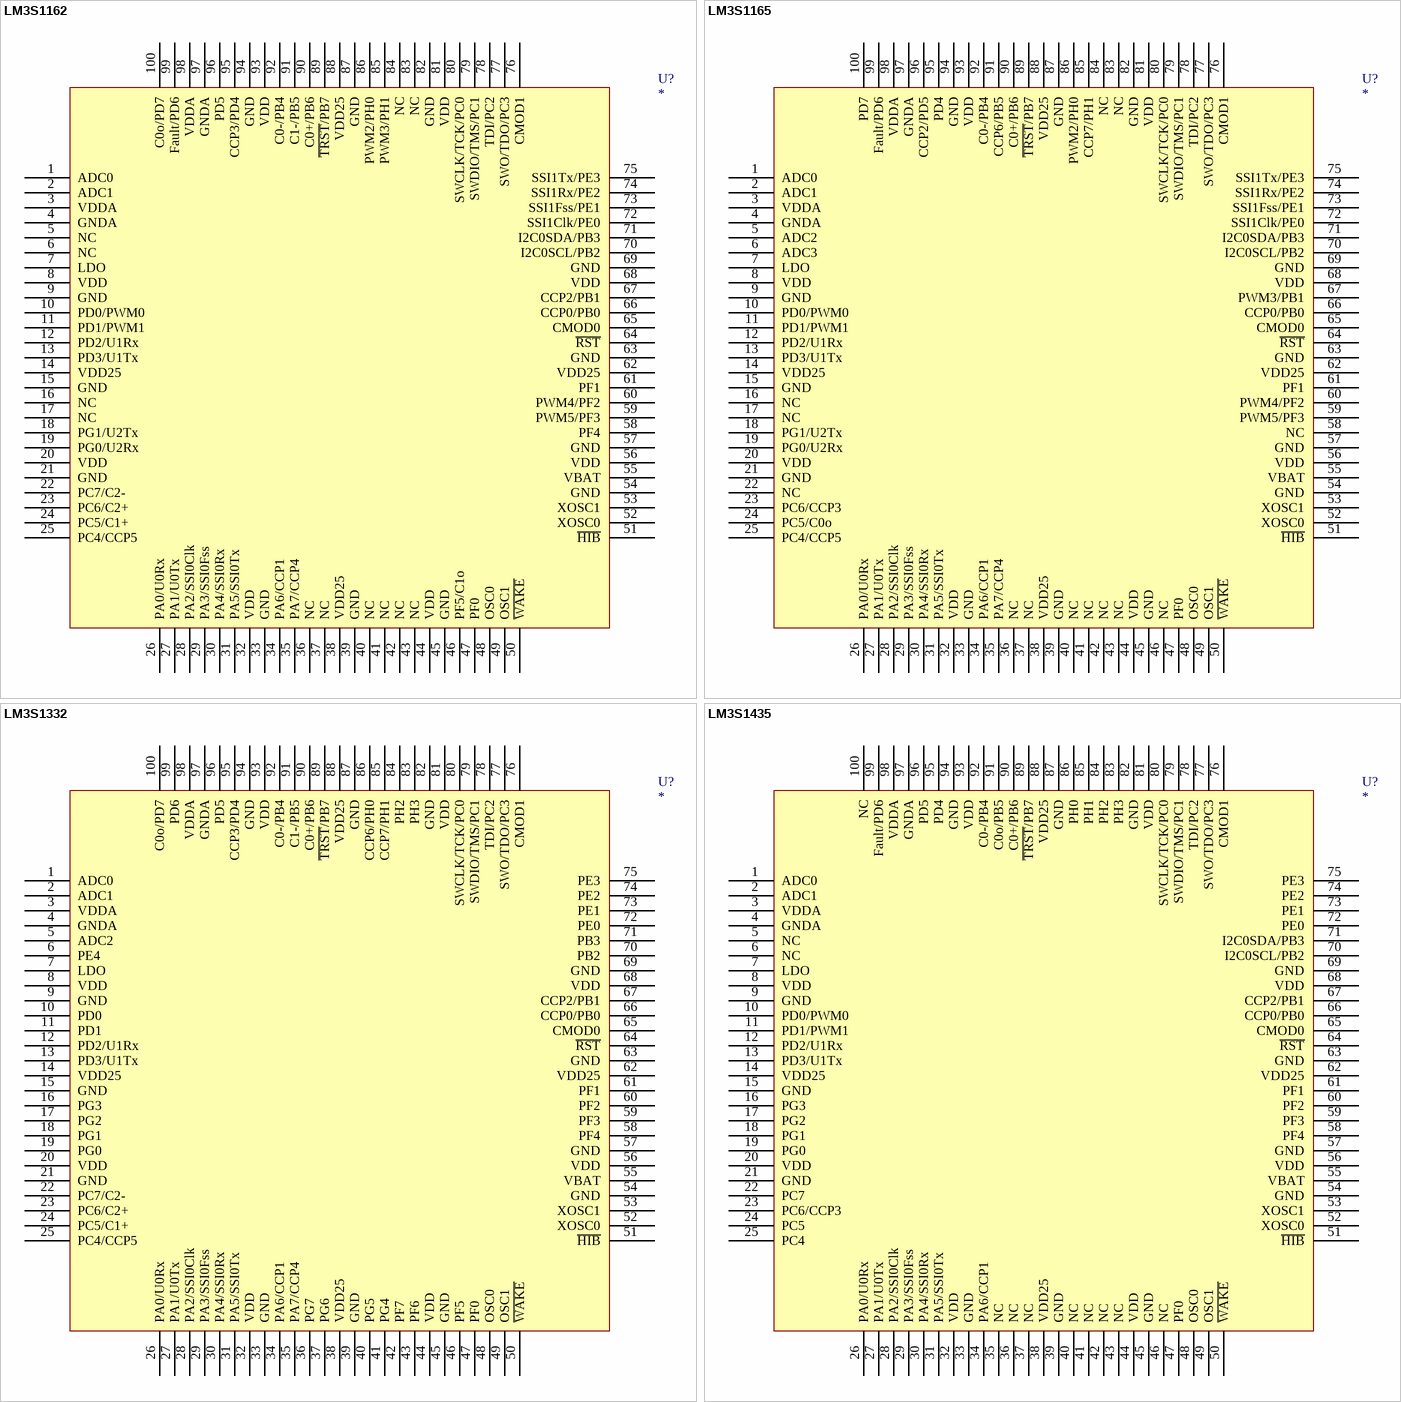
[diagram p23: symbols LM3S1162 to LM3S1435]

## LM3S1162
designator U?
footprint LQFP-100
pins: 1 ADC0, 2 ADC1, 3 VDDA, 4 GNDA, 5 NC, 6 NC, 7 LDO, 8 VDD, 9 GND, 10 PD0/PWM0, 11 PD1/PWM1, 12 PD2/U1Rx, 13 PD3/U1Tx, 14 VDD25, 15 GND, 16 NC, 17 NC, 18 PG1/U2Tx, 19 PG0/U2Rx, 20 VDD, 21 GND, 22 PC7/C2-, 23 PC6/C2+, 24 PC5/C1+, 25 PC4/CCP5, 26 PA0/U0Rx, 27 PA1/U0Tx, 28 PA2/SSI0Clk, 29 PA3/SSI0Fss, 30 PA4/SSI0Rx, 31 PA5/SSI0Tx, 32 VDD, 33 GND, 34 PA6/CCP1, 35 PA7/CCP4, 36 NC, 37 NC, 38 VDD25, 39 GND, 40 NC, 41 NC, 42 NC, 43 NC, 44 VDD, 45 GND, 46 PF5/C1o, 47 PF0, 48 OSC0, 49 OSC1, 50 ~{WAKE}, 51 ~{HIB}, 52 XOSC0, 53 XOSC1, 54 GND, 55 VBAT, 56 VDD, 57 GND, 58 PF4, 59 PWM5/PF3, 60 PWM4/PF2, 61 PF1, 62 VDD25, 63 GND, 64 ~{RST}, 65 CMOD0, 66 CCP0/PB0, 67 CCP2/PB1, 68 VDD, 69 GND, 70 I2C0SCL/PB2, 71 I2C0SDA/PB3, 72 SSI1Clk/PE0, 73 SSI1Fss/PE1, 74 SSI1Rx/PE2, 75 SSI1Tx/PE3, 76 CMOD1, 77 SWO/TDO/PC3, 78 TDI/PC2, 79 SWDIO/TMS/PC1, 80 SWCLK/TCK/PC0, 81 VDD, 82 GND, 83 NC, 84 NC, 85 PWM3/PH1, 86 PWM2/PH0, 87 GND, 88 VDD25, 89 ~{TRST}/PB7, 90 C0+/PB6, 91 C1-/PB5, 92 C0-/PB4, 93 VDD, 94 GND, 95 CCP3/PD4, 96 PD5, 97 GNDA, 98 VDDA, 99 Fault/PD6, 100 C0o/PD7

## LM3S1165
designator U?
footprint LQFP-100
pins: 1 ADC0, 2 ADC1, 3 VDDA, 4 GNDA, 5 ADC2, 6 ADC3, 7 LDO, 8 VDD, 9 GND, 10 PD0/PWM0, 11 PD1/PWM1, 12 PD2/U1Rx, 13 PD3/U1Tx, 14 VDD25, 15 GND, 16 NC, 17 NC, 18 PG1/U2Tx, 19 PG0/U2Rx, 20 VDD, 21 GND, 22 NC, 23 PC6/CCP3, 24 PC5/C0o, 25 PC4/CCP5, 26 PA0/U0Rx, 27 PA1/U0Tx, 28 PA2/SSI0Clk, 29 PA3/SSI0Fss, 30 PA4/SSI0Rx, 31 PA5/SSI0Tx, 32 VDD, 33 GND, 34 PA6/CCP1, 35 PA7/CCP4, 36 NC, 37 NC, 38 VDD25, 39 GND, 40 NC, 41 NC, 42 NC, 43 NC, 44 VDD, 45 GND, 46 NC, 47 PF0, 48 OSC0, 49 OSC1, 50 ~{WAKE}, 51 ~{HIB}, 52 XOSC0, 53 XOSC1, 54 GND, 55 VBAT, 56 VDD, 57 GND, 58 NC, 59 PWM5/PF3, 60 PWM4/PF2, 61 PF1, 62 VDD25, 63 GND, 64 ~{RST}, 65 CMOD0, 66 CCP0/PB0, 67 PWM3/PB1, 68 VDD, 69 GND, 70 I2C0SCL/PB2, 71 I2C0SDA/PB3, 72 SSI1Clk/PE0, 73 SSI1Fss/PE1, 74 SSI1Rx/PE2, 75 SSI1Tx/PE3, 76 CMOD1, 77 SWO/TDO/PC3, 78 TDI/PC2, 79 SWDIO/TMS/PC1, 80 SWCLK/TCK/PC0, 81 VDD, 82 GND, 83 NC, 84 NC, 85 CCP7/PH1, 86 PWM2/PH0, 87 GND, 88 VDD25, 89 ~{TRST}/PB7, 90 C0+/PB6, 91 CCP6/PB5, 92 C0-/PB4, 93 VDD, 94 GND, 95 PD4, 96 CCP2/PD5, 97 GNDA, 98 VDDA, 99 Fault/PD6, 100 PD7

## LM3S1332
designator U?
footprint LQFP-100
pins: 1 ADC0, 2 ADC1, 3 VDDA, 4 GNDA, 5 ADC2, 6 PE4, 7 LDO, 8 VDD, 9 GND, 10 PD0, 11 PD1, 12 PD2/U1Rx, 13 PD3/U1Tx, 14 VDD25, 15 GND, 16 PG3, 17 PG2, 18 PG1, 19 PG0, 20 VDD, 21 GND, 22 PC7/C2-, 23 PC6/C2+, 24 PC5/C1+, 25 PC4/CCP5, 26 PA0/U0Rx, 27 PA1/U0Tx, 28 PA2/SSI0Clk, 29 PA3/SSI0Fss, 30 PA4/SSI0Rx, 31 PA5/SSI0Tx, 32 VDD, 33 GND, 34 PA6/CCP1, 35 PA7/CCP4, 36 PG7, 37 PG6, 38 VDD25, 39 GND, 40 PG5, 41 PG4, 42 PF7, 43 PF6, 44 VDD, 45 GND, 46 PF5, 47 PF0, 48 OSC0, 49 OSC1, 50 ~{WAKE}, 51 ~{HIB}, 52 XOSC0, 53 XOSC1, 54 GND, 55 VBAT, 56 VDD, 57 GND, 58 PF4, 59 PF3, 60 PF2, 61 PF1, 62 VDD25, 63 GND, 64 ~{RST}, 65 CMOD0, 66 CCP0/PB0, 67 CCP2/PB1, 68 VDD, 69 GND, 70 PB2, 71 PB3, 72 PE0, 73 PE1, 74 PE2, 75 PE3, 76 CMOD1, 77 SWO/TDO/PC3, 78 TDI/PC2, 79 SWDIO/TMS/PC1, 80 SWCLK/TCK/PC0, 81 VDD, 82 GND, 83 PH3, 84 PH2, 85 CCP7/PH1, 86 CCP6/PH0, 87 GND, 88 VDD25, 89 ~{TRST}/PB7, 90 C0+/PB6, 91 C1-/PB5, 92 C0-/PB4, 93 VDD, 94 GND, 95 CCP3/PD4, 96 PD5, 97 GNDA, 98 VDDA, 99 PD6, 100 C0o/PD7

## LM3S1435
designator U?
footprint LQFP-100
pins: 1 ADC0, 2 ADC1, 3 VDDA, 4 GNDA, 5 NC, 6 NC, 7 LDO, 8 VDD, 9 GND, 10 PD0/PWM0, 11 PD1/PWM1, 12 PD2/U1Rx, 13 PD3/U1Tx, 14 VDD25, 15 GND, 16 PG3, 17 PG2, 18 PG1, 19 PG0, 20 VDD, 21 GND, 22 PC7, 23 PC6/CCP3, 24 PC5, 25 PC4, 26 PA0/U0Rx, 27 PA1/U0Tx, 28 PA2/SSI0Clk, 29 PA3/SSI0Fss, 30 PA4/SSI0Rx, 31 PA5/SSI0Tx, 32 VDD, 33 GND, 34 PA6/CCP1, 35 NC, 36 NC, 37 NC, 38 VDD25, 39 GND, 40 NC, 41 NC, 42 NC, 43 NC, 44 VDD, 45 GND, 46 NC, 47 PF0, 48 OSC0, 49 OSC1, 50 ~{WAKE}, 51 ~{HIB}, 52 XOSC0, 53 XOSC1, 54 GND, 55 VBAT, 56 VDD, 57 GND, 58 PF4, 59 PF3, 60 PF2, 61 PF1, 62 VDD25, 63 GND, 64 ~{RST}, 65 CMOD0, 66 CCP0/PB0, 67 CCP2/PB1, 68 VDD, 69 GND, 70 I2C0SCL/PB2, 71 I2C0SDA/PB3, 72 PE0, 73 PE1, 74 PE2, 75 PE3, 76 CMOD1, 77 SWO/TDO/PC3, 78 TDI/PC2, 79 SWDIO/TMS/PC1, 80 SWCLK/TCK/PC0, 81 VDD, 82 GND, 83 PH3, 84 PH2, 85 PH1, 86 PH0, 87 GND, 88 VDD25, 89 ~{TRST}/PB7, 90 C0+/PB6, 91 C0o/PB5, 92 C0-/PB4, 93 VDD, 94 GND, 95 PD4, 96 PD5, 97 GNDA, 98 VDDA, 99 Fault/PD6, 100 NC

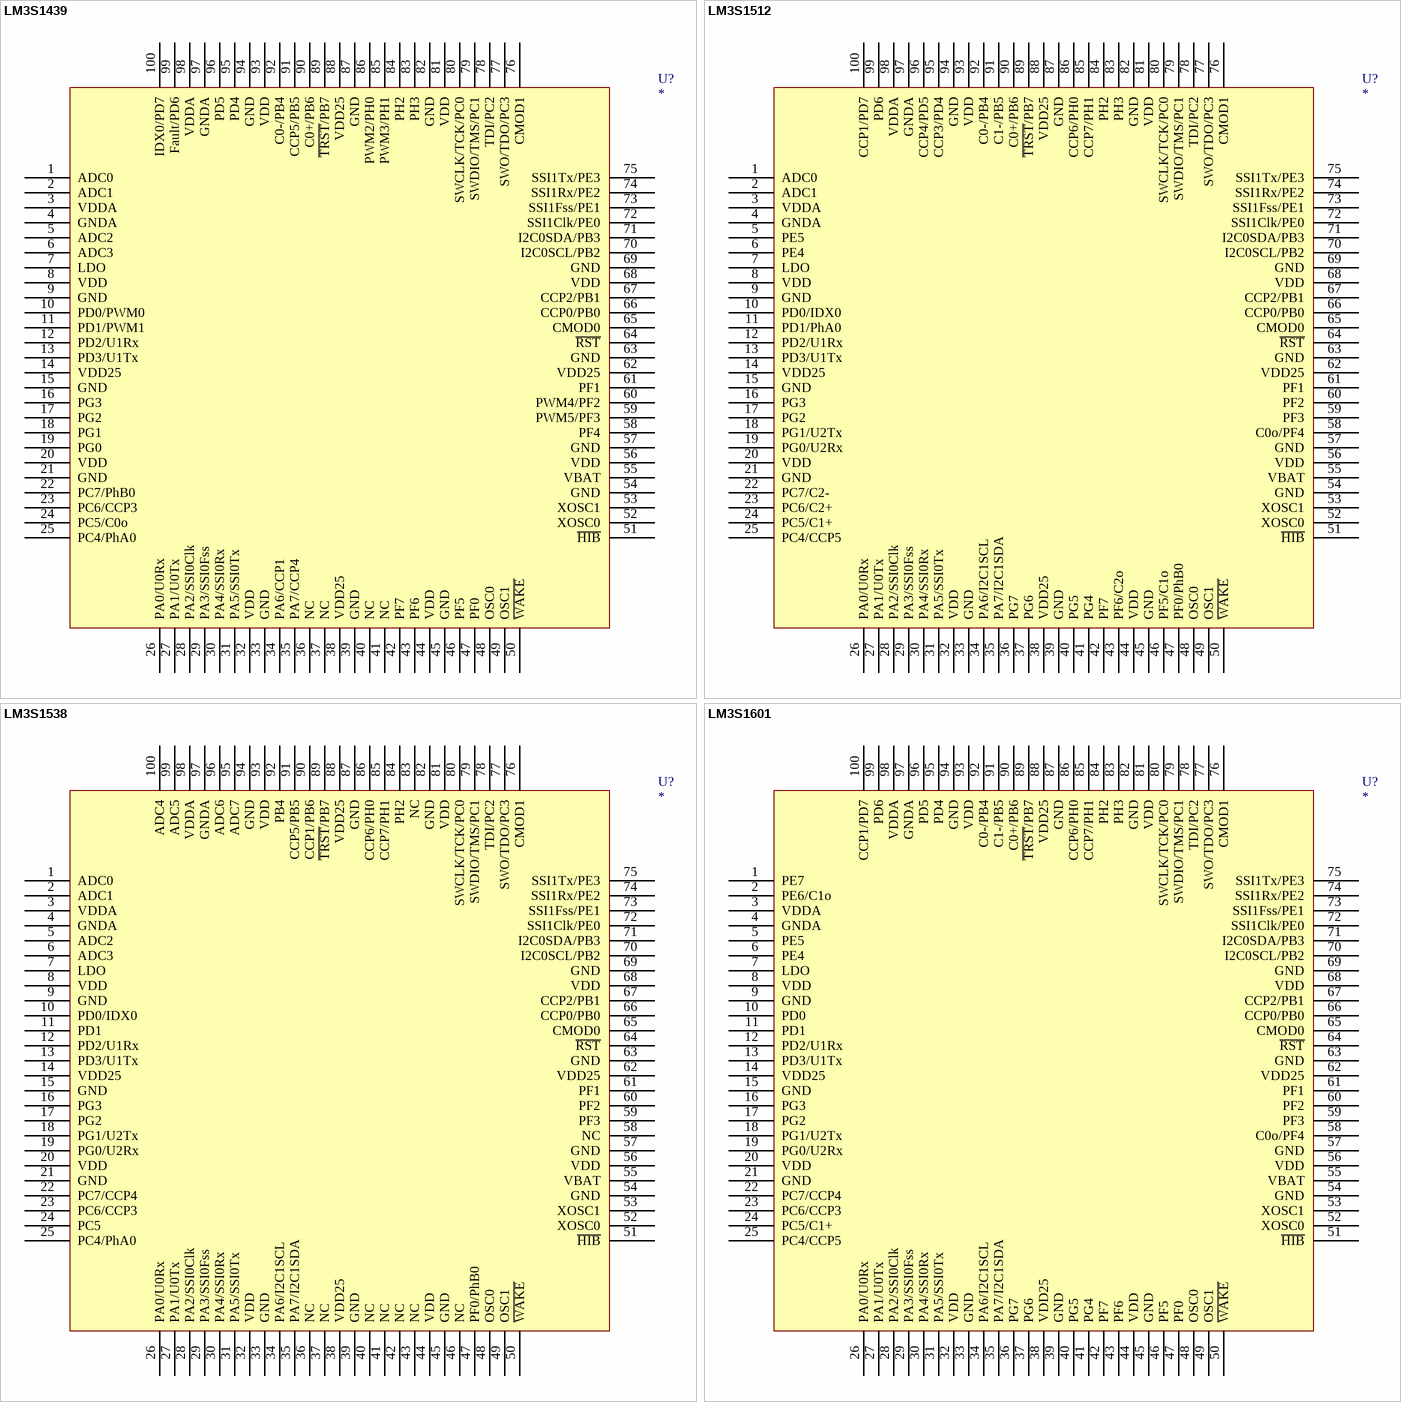
[diagram p24: symbols LM3S1439 to LM3S1601]

## LM3S1439
designator U?
footprint LQFP-100
pins: 1 ADC0, 2 ADC1, 3 VDDA, 4 GNDA, 5 ADC2, 6 ADC3, 7 LDO, 8 VDD, 9 GND, 10 PD0/PWM0, 11 PD1/PWM1, 12 PD2/U1Rx, 13 PD3/U1Tx, 14 VDD25, 15 GND, 16 PG3, 17 PG2, 18 PG1, 19 PG0, 20 VDD, 21 GND, 22 PC7/PhB0, 23 PC6/CCP3, 24 PC5/C0o, 25 PC4/PhA0, 26 PA0/U0Rx, 27 PA1/U0Tx, 28 PA2/SSI0Clk, 29 PA3/SSI0Fss, 30 PA4/SSI0Rx, 31 PA5/SSI0Tx, 32 VDD, 33 GND, 34 PA6/CCP1, 35 PA7/CCP4, 36 NC, 37 NC, 38 VDD25, 39 GND, 40 NC, 41 NC, 42 PF7, 43 PF6, 44 VDD, 45 GND, 46 PF5, 47 PF0, 48 OSC0, 49 OSC1, 50 ~{WAKE}, 51 ~{HIB}, 52 XOSC0, 53 XOSC1, 54 GND, 55 VBAT, 56 VDD, 57 GND, 58 PF4, 59 PWM5/PF3, 60 PWM4/PF2, 61 PF1, 62 VDD25, 63 GND, 64 ~{RST}, 65 CMOD0, 66 CCP0/PB0, 67 CCP2/PB1, 68 VDD, 69 GND, 70 I2C0SCL/PB2, 71 I2C0SDA/PB3, 72 SSI1Clk/PE0, 73 SSI1Fss/PE1, 74 SSI1Rx/PE2, 75 SSI1Tx/PE3, 76 CMOD1, 77 SWO/TDO/PC3, 78 TDI/PC2, 79 SWDIO/TMS/PC1, 80 SWCLK/TCK/PC0, 81 VDD, 82 GND, 83 PH3, 84 PH2, 85 PWM3/PH1, 86 PWM2/PH0, 87 GND, 88 VDD25, 89 ~{TRST}/PB7, 90 C0+/PB6, 91 CCP5/PB5, 92 C0-/PB4, 93 VDD, 94 GND, 95 PD4, 96 PD5, 97 GNDA, 98 VDDA, 99 Fault/PD6, 100 IDX0/PD7